# Altium integrated library Renesas Microcontroller R8C.IntLib: 628 symbols (part 30 of 33)
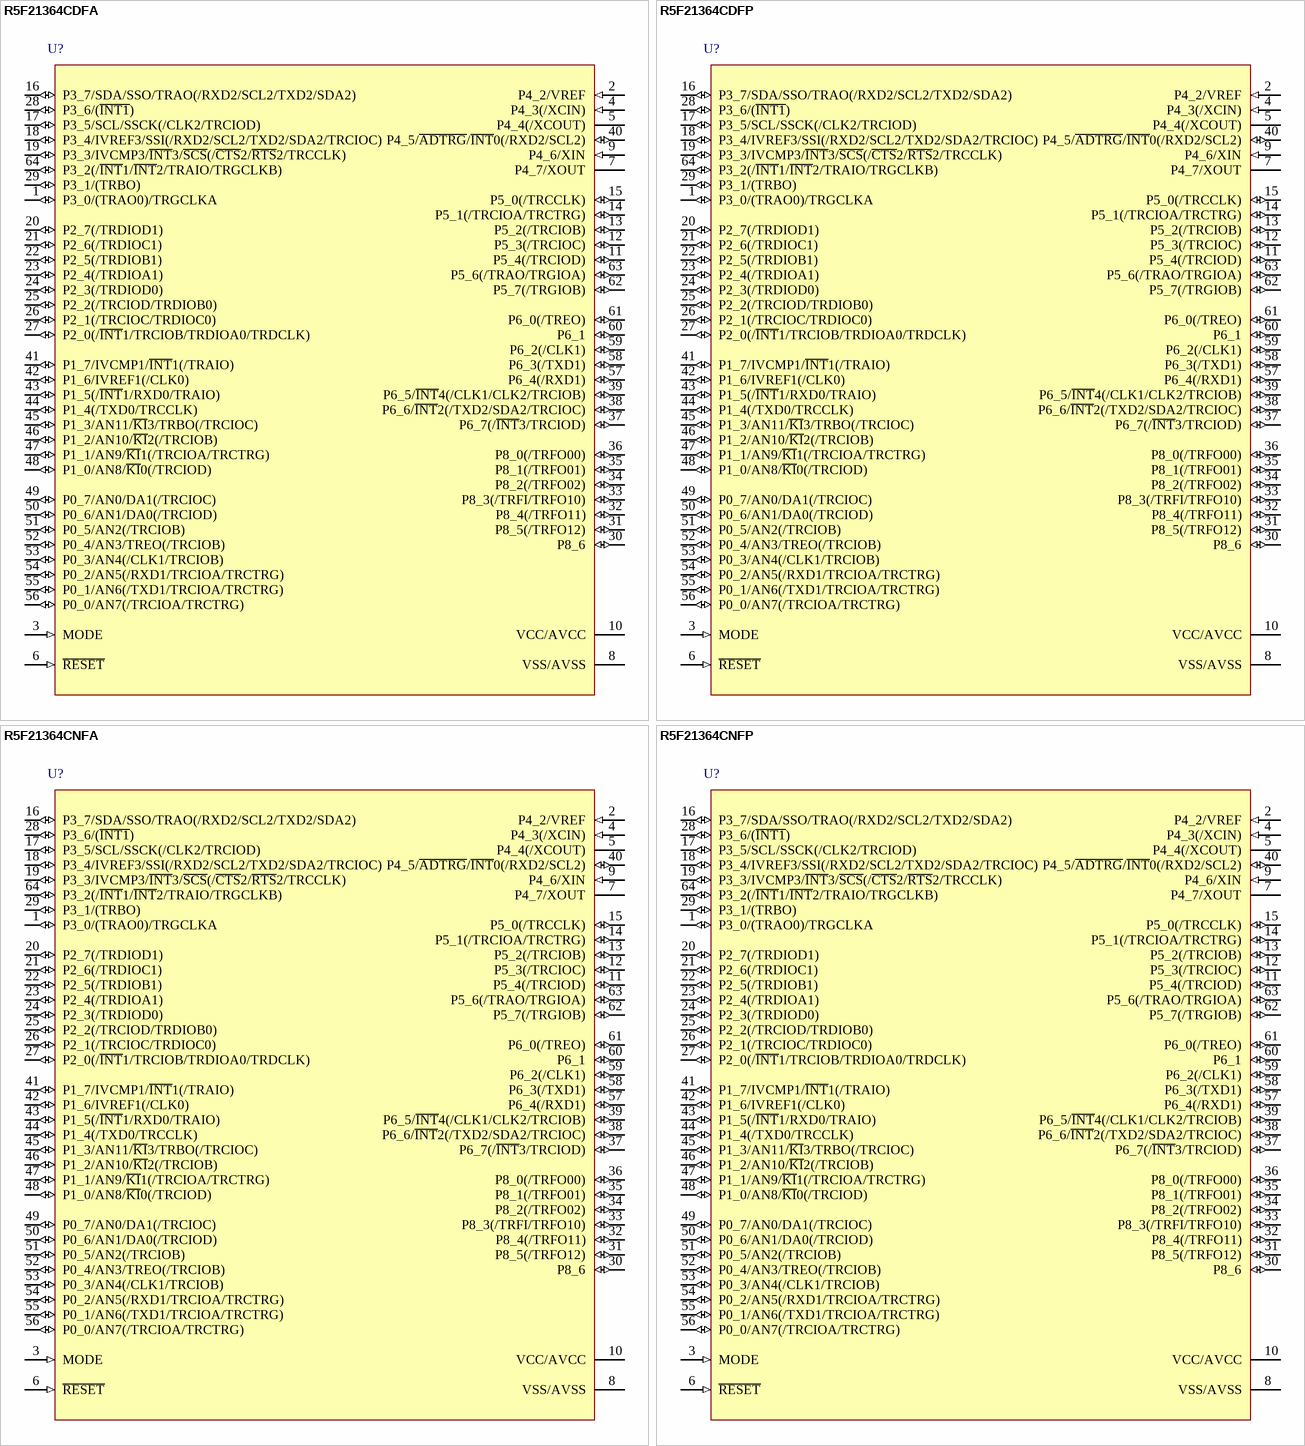
[diagram p145: symbols R5F21364CDFA to R5F21364CNFP]

## R5F21364CDFP
designator U?
R8C/36C Group Single Chip 16-Bit CMOS MCU, 16K + 4K ROM, 1.5K RAM, D Version; Published: 17-Feb-2010; DatasheetVersion: Rev.0.10, Nov-2009; PackageVersion: Sep-2005; PackageReference: PLQP0064KB-A; Publisher: Altium Limited; PackageDescription: 64-Pin Plastic Low Profile QFP, 10 x 10 x 1.4 mm Body, 0.5 mm Pitch; Code_JEITA: P-LQFP64-10x10-0.50; Code_IPC: SQFP50P1200X1200-64; ComponentLink1Description: Manufacturer Link; ComponentLink1URL: http://sg.renesas.com/fmwk.jsp?cnt=r8c_family_landing.jsp&fp=/products/mpumcu/r8c_family/; ComponentLink2Description: Datasheet; ComponentLink2URL: http://documentation.renesas.com/eng/products/mpumcu/rej09b0574_r8c36chm.pdf; ComponentLink3Description: Packaging Specification; ComponentLink3URL: http://sg.renesas.com/media/products/common_info/package/pdf/ic/code/plqp0064kb_a.pdf
footprint PLQP0064KB-A_N (Shrink QFP, 64-Leads, Body 10x10mm, Pitch 0.5mm, IPC Medium Density)
footprint PLQP0064KB-A_L (Shrink QFP, 64-Leads, Body 10x10mm, Pitch 0.5mm, IPC High Density)
footprint PLQP0064KB-A_M (Shrink QFP, 64-Leads, Body 10x10mm, Pitch 0.5mm, IPC Low Density)
pins: 1 P3_0/(TRAO0)/TRGCLKA (io), 2 P4_2/VREF (in), 3 MODE (in), 4 P4_3(/XCIN) (in), 5 P4_4(/XCOUT), 6 ~{RESET} (in), 7 P4_7/XOUT, 8 VSS/AVSS (power), 9 P4_6/XIN (in), 10 VCC/AVCC (power), 11 P5_4(/TRCIOD) (io), 12 P5_3(/TRCIOC) (io), 13 P5_2(/TRCIOB) (io), 14 P5_1(/TRCIOA/TRCTRG) (io), 15 P5_0(/TRCCLK) (io), 16 P3_7/SDA/SSO/TRAO(/RXD2/SCL2/TXD2/SDA2) (io), 17 P3_5/SCL/SSCK(/CLK2/TRCIOD) (io), 18 P3_4/IVREF3/SSI(/RXD2/SCL2/TXD2/SDA2/TRCIOC) (io), 19 P3_3/IVCMP3/~{INT}3/~{SCS}(/~{CTS}2/~{RTS}2/TRCCLK) (io), 20 P2_7(/TRDIOD1) (io), 21 P2_6(/TRDIOC1) (io), 22 P2_5(/TRDIOB1) (io), 23 P2_4(/TRDIOA1) (io), 24 P2_3(/TRDIOD0) (io), 25 P2_2(/TRCIOD/TRDIOB0) (io), 26 P2_1(/TRCIOC/TRDIOC0) (io), 27 P2_0(/~{INT}1/TRCIOB/TRDIOA0/TRDCLK) (io), 28 P3_6/(~{INT1}) (io), 29 P3_1/(TRBO) (io), 30 P8_6 (io), 31 P8_5(/TRFO12) (io), 32 P8_4(/TRFO11) (io), 33 P8_3(/TRFI/TRFO10) (io), 34 P8_2(/TRFO02) (io), 35 P8_1(/TRFO01) (io), 36 P8_0(/TRFO00) (io), 37 P6_7(/~{INT}3/TRCIOD) (io), 38 P6_6/~{INT}2(/TXD2/SDA2/TRCIOC) (io), 39 P6_5/~{INT}4(/CLK1/CLK2/TRCIOB) (io), 40 P4_5/~{ADTRG}/~{INT}0(/RXD2/SCL2) (io), 41 P1_7/IVCMP1/~{INT}1(/TRAIO) (io), 42 P1_6/IVREF1(/CLK0) (io), 43 P1_5(/~{INT}1/RXD0/TRAIO) (io), 44 P1_4(/TXD0/TRCCLK) (io), 45 P1_3/AN11/~{KI}3/TRBO(/TRCIOC) (io), 46 P1_2/AN10/~{KI}2(/TRCIOB) (io), 47 P1_1/AN9/~{KI}1(/TRCIOA/TRCTRG) (io), 48 P1_0/AN8/~{KI}0(/TRCIOD) (io), 49 P0_7/AN0/DA1(/TRCIOC) (io), 50 P0_6/AN1/DA0(/TRCIOD) (io), 51 P0_5/AN2(/TRCIOB) (io), 52 P0_4/AN3/TREO(/TRCIOB) (io), 53 P0_3/AN4(/CLK1/TRCIOB) (io), 54 P0_2/AN5(/RXD1/TRCIOA/TRCTRG) (io), 55 P0_1/AN6(/TXD1/TRCIOA/TRCTRG) (io), 56 P0_0/AN7(/TRCIOA/TRCTRG) (io), 57 P6_4(/RXD1) (io), 58 P6_3(/TXD1) (io), 59 P6_2(/CLK1) (io), 60 P6_1 (io), 61 P6_0(/TREO) (io), 62 P5_7(/TRGIOB) (io), 63 P5_6(/TRAO/TRGIOA) (io), 64 P3_2(/~{INT}1/~{INT}2/TRAIO/TRGCLKB) (io)

## R5F21364CNFA
designator U?
R8C/36C Group Single Chip 16-Bit CMOS MCU, 16K + 4K ROM, 1.5K RAM, N Version; Published: 17-Feb-2010; DatasheetVersion: Rev.0.10, Nov-2009; PackageVersion: Oct-2005; PackageReference: PLQP0064GA-A; Publisher: Altium Limited; PackageDescription: 64-Pin Plastic Low Profile QFP, 14 x 14 x 1.4 mm Body, 0.8 mm Pitch; Code_JEITA: P-LQFP64-14x14-0.80; ComponentLink1Description: Manufacturer Link; ComponentLink1URL: http://sg.renesas.com/fmwk.jsp?cnt=r8c_family_landing.jsp&fp=/products/mpumcu/r8c_family/; ComponentLink2Description: Datasheet; ComponentLink2URL: http://documentation.renesas.com/eng/products/mpumcu/rej09b0574_r8c36chm.pdf; ComponentLink3Description: Packaging Specification; ComponentLink3URL: http://sg.renesas.com/media/products/common_info/package/pdf/ic/code/plqp0064ga_a.pdf
footprint PLQP0064GA-A_N (QFP, 64-Leads, Body 14x14mm, Pitch 0.8mm, IPC Medium Density)
footprint PLQP0064GA-A_L (QFP, 64-Leads, Body 14x14mm, Pitch 0.8mm, IPC High Density)
footprint PLQP0064GA-A_M (QFP, 64-Leads, Body 14x14mm, Pitch 0.8mm, IPC Low Density)
pins: 1 P3_0/(TRAO0)/TRGCLKA (io), 2 P4_2/VREF (in), 3 MODE (in), 4 P4_3(/XCIN) (in), 5 P4_4(/XCOUT), 6 ~{RESET} (in), 7 P4_7/XOUT, 8 VSS/AVSS (power), 9 P4_6/XIN (in), 10 VCC/AVCC (power), 11 P5_4(/TRCIOD) (io), 12 P5_3(/TRCIOC) (io), 13 P5_2(/TRCIOB) (io), 14 P5_1(/TRCIOA/TRCTRG) (io), 15 P5_0(/TRCCLK) (io), 16 P3_7/SDA/SSO/TRAO(/RXD2/SCL2/TXD2/SDA2) (io), 17 P3_5/SCL/SSCK(/CLK2/TRCIOD) (io), 18 P3_4/IVREF3/SSI(/RXD2/SCL2/TXD2/SDA2/TRCIOC) (io), 19 P3_3/IVCMP3/~{INT}3/~{SCS}(/~{CTS}2/~{RTS}2/TRCCLK) (io), 20 P2_7(/TRDIOD1) (io), 21 P2_6(/TRDIOC1) (io), 22 P2_5(/TRDIOB1) (io), 23 P2_4(/TRDIOA1) (io), 24 P2_3(/TRDIOD0) (io), 25 P2_2(/TRCIOD/TRDIOB0) (io), 26 P2_1(/TRCIOC/TRDIOC0) (io), 27 P2_0(/~{INT}1/TRCIOB/TRDIOA0/TRDCLK) (io), 28 P3_6/(~{INT1}) (io), 29 P3_1/(TRBO) (io), 30 P8_6 (io), 31 P8_5(/TRFO12) (io), 32 P8_4(/TRFO11) (io), 33 P8_3(/TRFI/TRFO10) (io), 34 P8_2(/TRFO02) (io), 35 P8_1(/TRFO01) (io), 36 P8_0(/TRFO00) (io), 37 P6_7(/~{INT}3/TRCIOD) (io), 38 P6_6/~{INT}2(/TXD2/SDA2/TRCIOC) (io), 39 P6_5/~{INT}4(/CLK1/CLK2/TRCIOB) (io), 40 P4_5/~{ADTRG}/~{INT}0(/RXD2/SCL2) (io), 41 P1_7/IVCMP1/~{INT}1(/TRAIO) (io), 42 P1_6/IVREF1(/CLK0) (io), 43 P1_5(/~{INT}1/RXD0/TRAIO) (io), 44 P1_4(/TXD0/TRCCLK) (io), 45 P1_3/AN11/~{KI}3/TRBO(/TRCIOC) (io), 46 P1_2/AN10/~{KI}2(/TRCIOB) (io), 47 P1_1/AN9/~{KI}1(/TRCIOA/TRCTRG) (io), 48 P1_0/AN8/~{KI}0(/TRCIOD) (io), 49 P0_7/AN0/DA1(/TRCIOC) (io), 50 P0_6/AN1/DA0(/TRCIOD) (io), 51 P0_5/AN2(/TRCIOB) (io), 52 P0_4/AN3/TREO(/TRCIOB) (io), 53 P0_3/AN4(/CLK1/TRCIOB) (io), 54 P0_2/AN5(/RXD1/TRCIOA/TRCTRG) (io), 55 P0_1/AN6(/TXD1/TRCIOA/TRCTRG) (io), 56 P0_0/AN7(/TRCIOA/TRCTRG) (io), 57 P6_4(/RXD1) (io), 58 P6_3(/TXD1) (io), 59 P6_2(/CLK1) (io), 60 P6_1 (io), 61 P6_0(/TREO) (io), 62 P5_7(/TRGIOB) (io), 63 P5_6(/TRAO/TRGIOA) (io), 64 P3_2(/~{INT}1/~{INT}2/TRAIO/TRGCLKB) (io)

## R5F21364CNFP
designator U?
R8C/36C Group Single Chip 16-Bit CMOS MCU, 16K + 4K ROM, 1.5K RAM, N Version; Published: 17-Feb-2010; DatasheetVersion: Rev.0.10, Nov-2009; PackageVersion: Sep-2005; PackageReference: PLQP0064KB-A; Publisher: Altium Limited; PackageDescription: 64-Pin Plastic Low Profile QFP, 10 x 10 x 1.4 mm Body, 0.5 mm Pitch; Code_JEITA: P-LQFP64-10x10-0.50; Code_IPC: SQFP50P1200X1200-64; ComponentLink1Description: Manufacturer Link; ComponentLink1URL: http://sg.renesas.com/fmwk.jsp?cnt=r8c_family_landing.jsp&fp=/products/mpumcu/r8c_family/; ComponentLink2Description: Datasheet; ComponentLink2URL: http://documentation.renesas.com/eng/products/mpumcu/rej09b0574_r8c36chm.pdf; ComponentLink3Description: Packaging Specification; ComponentLink3URL: http://sg.renesas.com/media/products/common_info/package/pdf/ic/code/plqp0064kb_a.pdf
footprint PLQP0064KB-A_N (Shrink QFP, 64-Leads, Body 10x10mm, Pitch 0.5mm, IPC Medium Density)
footprint PLQP0064KB-A_L (Shrink QFP, 64-Leads, Body 10x10mm, Pitch 0.5mm, IPC High Density)
footprint PLQP0064KB-A_M (Shrink QFP, 64-Leads, Body 10x10mm, Pitch 0.5mm, IPC Low Density)
pins: 1 P3_0/(TRAO0)/TRGCLKA (io), 2 P4_2/VREF (in), 3 MODE (in), 4 P4_3(/XCIN) (in), 5 P4_4(/XCOUT), 6 ~{RESET} (in), 7 P4_7/XOUT, 8 VSS/AVSS (power), 9 P4_6/XIN (in), 10 VCC/AVCC (power), 11 P5_4(/TRCIOD) (io), 12 P5_3(/TRCIOC) (io), 13 P5_2(/TRCIOB) (io), 14 P5_1(/TRCIOA/TRCTRG) (io), 15 P5_0(/TRCCLK) (io), 16 P3_7/SDA/SSO/TRAO(/RXD2/SCL2/TXD2/SDA2) (io), 17 P3_5/SCL/SSCK(/CLK2/TRCIOD) (io), 18 P3_4/IVREF3/SSI(/RXD2/SCL2/TXD2/SDA2/TRCIOC) (io), 19 P3_3/IVCMP3/~{INT}3/~{SCS}(/~{CTS}2/~{RTS}2/TRCCLK) (io), 20 P2_7(/TRDIOD1) (io), 21 P2_6(/TRDIOC1) (io), 22 P2_5(/TRDIOB1) (io), 23 P2_4(/TRDIOA1) (io), 24 P2_3(/TRDIOD0) (io), 25 P2_2(/TRCIOD/TRDIOB0) (io), 26 P2_1(/TRCIOC/TRDIOC0) (io), 27 P2_0(/~{INT}1/TRCIOB/TRDIOA0/TRDCLK) (io), 28 P3_6/(~{INT1}) (io), 29 P3_1/(TRBO) (io), 30 P8_6 (io), 31 P8_5(/TRFO12) (io), 32 P8_4(/TRFO11) (io), 33 P8_3(/TRFI/TRFO10) (io), 34 P8_2(/TRFO02) (io), 35 P8_1(/TRFO01) (io), 36 P8_0(/TRFO00) (io), 37 P6_7(/~{INT}3/TRCIOD) (io), 38 P6_6/~{INT}2(/TXD2/SDA2/TRCIOC) (io), 39 P6_5/~{INT}4(/CLK1/CLK2/TRCIOB) (io), 40 P4_5/~{ADTRG}/~{INT}0(/RXD2/SCL2) (io), 41 P1_7/IVCMP1/~{INT}1(/TRAIO) (io), 42 P1_6/IVREF1(/CLK0) (io), 43 P1_5(/~{INT}1/RXD0/TRAIO) (io), 44 P1_4(/TXD0/TRCCLK) (io), 45 P1_3/AN11/~{KI}3/TRBO(/TRCIOC) (io), 46 P1_2/AN10/~{KI}2(/TRCIOB) (io), 47 P1_1/AN9/~{KI}1(/TRCIOA/TRCTRG) (io), 48 P1_0/AN8/~{KI}0(/TRCIOD) (io), 49 P0_7/AN0/DA1(/TRCIOC) (io), 50 P0_6/AN1/DA0(/TRCIOD) (io), 51 P0_5/AN2(/TRCIOB) (io), 52 P0_4/AN3/TREO(/TRCIOB) (io), 53 P0_3/AN4(/CLK1/TRCIOB) (io), 54 P0_2/AN5(/RXD1/TRCIOA/TRCTRG) (io), 55 P0_1/AN6(/TXD1/TRCIOA/TRCTRG) (io), 56 P0_0/AN7(/TRCIOA/TRCTRG) (io), 57 P6_4(/RXD1) (io), 58 P6_3(/TXD1) (io), 59 P6_2(/CLK1) (io), 60 P6_1 (io), 61 P6_0(/TREO) (io), 62 P5_7(/TRGIOB) (io), 63 P5_6(/TRAO/TRGIOA) (io), 64 P3_2(/~{INT}1/~{INT}2/TRAIO/TRGCLKB) (io)

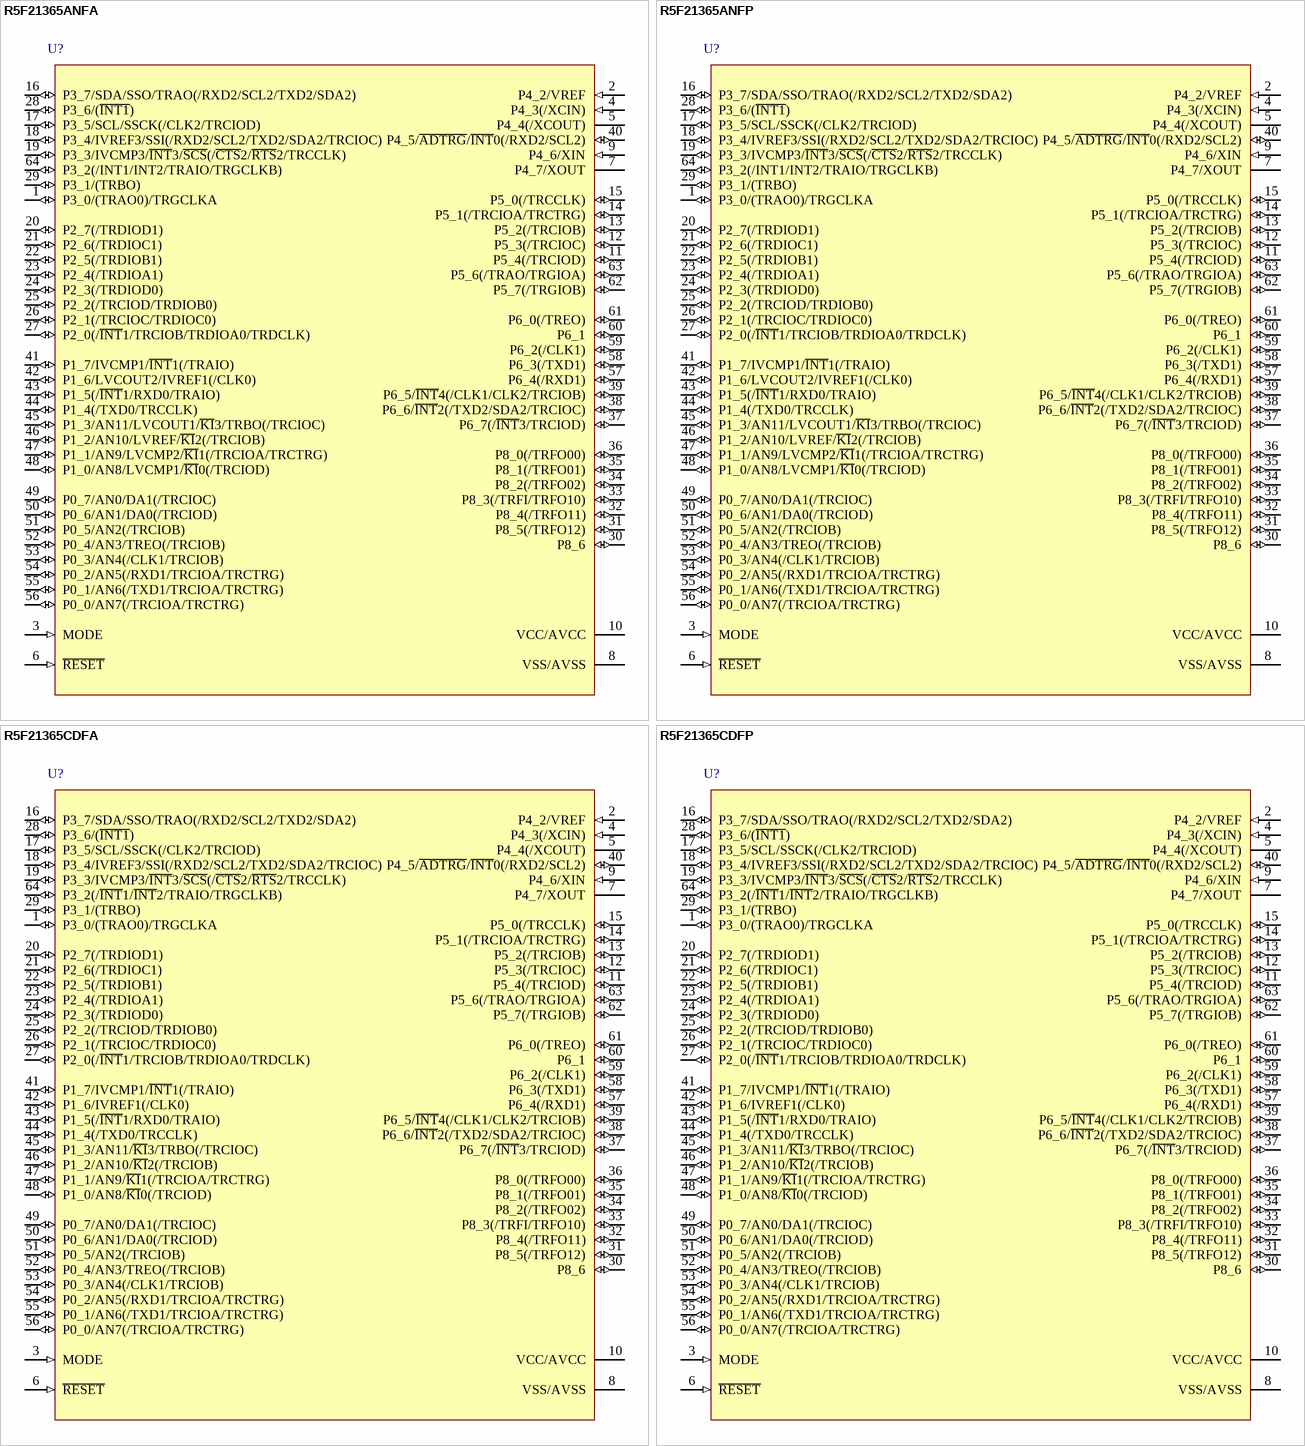
[diagram p104: symbols R5F21365ANFA to R5F21365CDFP]

## R5F21365ANFA
designator U?
R8C/36A Group Single Chip 16-Bit CMOS MCU, 24K + 4K ROM, 2K RAM, N Version; Published: 17-Feb-2010; DatasheetVersion: Rev.1.10, Sep-2009; PackageVersion: Oct-2005; PackageReference: PLQP0064GA-A; Publisher: Altium Limited; PackageDescription: 64-Pin Plastic Low Profile QFP, 14 x 14 x 1.4 mm Body, 0.8 mm Pitch; Code_JEITA: P-LQFP64-14x14-0.80; ComponentLink1Description: Manufacturer Link; ComponentLink1URL: http://sg.renesas.com/fmwk.jsp?cnt=r8c_family_landing.jsp&fp=/products/mpumcu/r8c_family/; ComponentLink2Description: Datasheet; ComponentLink2URL: http://documentation.renesas.com/eng/products/mpumcu/rej03b0265_r8c36ads.pdf; ComponentLink3Description: Packaging Specification; ComponentLink3URL: http://sg.renesas.com/media/products/common_info/package/pdf/ic/code/plqp0064ga_a.pdf
footprint PLQP0064GA-A_N (QFP, 64-Leads, Body 14x14mm, Pitch 0.8mm, IPC Medium Density)
footprint PLQP0064GA-A_L (QFP, 64-Leads, Body 14x14mm, Pitch 0.8mm, IPC High Density)
footprint PLQP0064GA-A_M (QFP, 64-Leads, Body 14x14mm, Pitch 0.8mm, IPC Low Density)
pins: 1 P3_0/(TRAO0)/TRGCLKA (io), 2 P4_2/VREF (in), 3 MODE (in), 4 P4_3(/XCIN) (in), 5 P4_4(/XCOUT), 6 ~{RESET} (in), 7 P4_7/XOUT, 8 VSS/AVSS (power), 9 P4_6/XIN (in), 10 VCC/AVCC (power), 11 P5_4(/TRCIOD) (io), 12 P5_3(/TRCIOC) (io), 13 P5_2(/TRCIOB) (io), 14 P5_1(/TRCIOA/TRCTRG) (io), 15 P5_0(/TRCCLK) (io), 16 P3_7/SDA/SSO/TRAO(/RXD2/SCL2/TXD2/SDA2) (io), 17 P3_5/SCL/SSCK(/CLK2/TRCIOD) (io), 18 P3_4/IVREF3/SSI(/RXD2/SCL2/TXD2/SDA2/TRCIOC) (io), 19 P3_3/IVCMP3/~{INT}3/~{SCS}(/~{CTS}2/~{RTS}2/TRCCLK) (io), 20 P2_7(/TRDIOD1) (io), 21 P2_6(/TRDIOC1) (io), 22 P2_5(/TRDIOB1) (io), 23 P2_4(/TRDIOA1) (io), 24 P2_3(/TRDIOD0) (io), 25 P2_2(/TRCIOD/TRDIOB0) (io), 26 P2_1(/TRCIOC/TRDIOC0) (io), 27 P2_0(/~{INT}1/TRCIOB/TRDIOA0/TRDCLK) (io), 28 P3_6/(~{INT1}) (io), 29 P3_1/(TRBO) (io), 30 P8_6 (io), 31 P8_5(/TRFO12) (io), 32 P8_4(/TRFO11) (io), 33 P8_3(/TRFI/TRFO10) (io), 34 P8_2(/TRFO02) (io), 35 P8_1(/TRFO01) (io), 36 P8_0(/TRFO00) (io), 37 P6_7(/~{INT}3/TRCIOD) (io), 38 P6_6/~{INT}2(/TXD2/SDA2/TRCIOC) (io), 39 P6_5/~{INT}4(/CLK1/CLK2/TRCIOB) (io), 40 P4_5/~{ADTRG}/~{INT}0(/RXD2/SCL2) (io), 41 P1_7/IVCMP1/~{INT}1(/TRAIO) (io), 42 P1_6/LVCOUT2/IVREF1(/CLK0) (io), 43 P1_5(/~{INT}1/RXD0/TRAIO) (io), 44 P1_4(/TXD0/TRCCLK) (io), 45 P1_3/AN11/LVCOUT1/~{KI}3/TRBO(/TRCIOC) (io), 46 P1_2/AN10/LVREF/~{KI}2(/TRCIOB) (io), 47 P1_1/AN9/LVCMP2/~{KI}1(/TRCIOA/TRCTRG) (io), 48 P1_0/AN8/LVCMP1/~{KI}0(/TRCIOD) (io), 49 P0_7/AN0/DA1(/TRCIOC) (io), 50 P0_6/AN1/DA0(/TRCIOD) (io), 51 P0_5/AN2(/TRCIOB) (io), 52 P0_4/AN3/TREO(/TRCIOB) (io), 53 P0_3/AN4(/CLK1/TRCIOB) (io), 54 P0_2/AN5(/RXD1/TRCIOA/TRCTRG) (io), 55 P0_1/AN6(/TXD1/TRCIOA/TRCTRG) (io), 56 P0_0/AN7(/TRCIOA/TRCTRG) (io), 57 P6_4(/RXD1) (io), 58 P6_3(/TXD1) (io), 59 P6_2(/CLK1) (io), 60 P6_1 (io), 61 P6_0(/TREO) (io), 62 P5_7(/TRGIOB) (io), 63 P5_6(/TRAO/TRGIOA) (io), 64 P3_2(/INT1/INT2/TRAIO/TRGCLKB) (io)

## R5F21365ANFP
designator U?
R8C/36A Group Single Chip 16-Bit CMOS MCU, 24K + 4K ROM, 2K RAM, N Version; Published: 17-Feb-2010; DatasheetVersion: Rev.1.10, Sep-2009; PackageVersion: Sep-2005; PackageReference: PLQP0064KB-A; Publisher: Altium Limited; PackageDescription: 64-Pin Plastic Low Profile QFP, 10 x 10 x 1.4 mm Body, 0.5 mm Pitch; Code_JEITA: P-LQFP64-10x10-0.50; Code_IPC: SQFP50P1200X1200-64; ComponentLink1Description: Manufacturer Link; ComponentLink1URL: http://sg.renesas.com/fmwk.jsp?cnt=r8c_family_landing.jsp&fp=/products/mpumcu/r8c_family/; ComponentLink2Description: Datasheet; ComponentLink2URL: http://documentation.renesas.com/eng/products/mpumcu/rej03b0265_r8c36ads.pdf; ComponentLink3Description: Packaging Specification; ComponentLink3URL: http://sg.renesas.com/media/products/common_info/package/pdf/ic/code/plqp0064kb_a.pdf
footprint PLQP0064KB-A_N (Shrink QFP, 64-Leads, Body 10x10mm, Pitch 0.5mm, IPC Medium Density)
footprint PLQP0064KB-A_L (Shrink QFP, 64-Leads, Body 10x10mm, Pitch 0.5mm, IPC High Density)
footprint PLQP0064KB-A_M (Shrink QFP, 64-Leads, Body 10x10mm, Pitch 0.5mm, IPC Low Density)
pins: 1 P3_0/(TRAO0)/TRGCLKA (io), 2 P4_2/VREF (in), 3 MODE (in), 4 P4_3(/XCIN) (in), 5 P4_4(/XCOUT), 6 ~{RESET} (in), 7 P4_7/XOUT, 8 VSS/AVSS (power), 9 P4_6/XIN (in), 10 VCC/AVCC (power), 11 P5_4(/TRCIOD) (io), 12 P5_3(/TRCIOC) (io), 13 P5_2(/TRCIOB) (io), 14 P5_1(/TRCIOA/TRCTRG) (io), 15 P5_0(/TRCCLK) (io), 16 P3_7/SDA/SSO/TRAO(/RXD2/SCL2/TXD2/SDA2) (io), 17 P3_5/SCL/SSCK(/CLK2/TRCIOD) (io), 18 P3_4/IVREF3/SSI(/RXD2/SCL2/TXD2/SDA2/TRCIOC) (io), 19 P3_3/IVCMP3/~{INT}3/~{SCS}(/~{CTS}2/~{RTS}2/TRCCLK) (io), 20 P2_7(/TRDIOD1) (io), 21 P2_6(/TRDIOC1) (io), 22 P2_5(/TRDIOB1) (io), 23 P2_4(/TRDIOA1) (io), 24 P2_3(/TRDIOD0) (io), 25 P2_2(/TRCIOD/TRDIOB0) (io), 26 P2_1(/TRCIOC/TRDIOC0) (io), 27 P2_0(/~{INT}1/TRCIOB/TRDIOA0/TRDCLK) (io), 28 P3_6/(~{INT1}) (io), 29 P3_1/(TRBO) (io), 30 P8_6 (io), 31 P8_5(/TRFO12) (io), 32 P8_4(/TRFO11) (io), 33 P8_3(/TRFI/TRFO10) (io), 34 P8_2(/TRFO02) (io), 35 P8_1(/TRFO01) (io), 36 P8_0(/TRFO00) (io), 37 P6_7(/~{INT}3/TRCIOD) (io), 38 P6_6/~{INT}2(/TXD2/SDA2/TRCIOC) (io), 39 P6_5/~{INT}4(/CLK1/CLK2/TRCIOB) (io), 40 P4_5/~{ADTRG}/~{INT}0(/RXD2/SCL2) (io), 41 P1_7/IVCMP1/~{INT}1(/TRAIO) (io), 42 P1_6/LVCOUT2/IVREF1(/CLK0) (io), 43 P1_5(/~{INT}1/RXD0/TRAIO) (io), 44 P1_4(/TXD0/TRCCLK) (io), 45 P1_3/AN11/LVCOUT1/~{KI}3/TRBO(/TRCIOC) (io), 46 P1_2/AN10/LVREF/~{KI}2(/TRCIOB) (io), 47 P1_1/AN9/LVCMP2/~{KI}1(/TRCIOA/TRCTRG) (io), 48 P1_0/AN8/LVCMP1/~{KI}0(/TRCIOD) (io), 49 P0_7/AN0/DA1(/TRCIOC) (io), 50 P0_6/AN1/DA0(/TRCIOD) (io), 51 P0_5/AN2(/TRCIOB) (io), 52 P0_4/AN3/TREO(/TRCIOB) (io), 53 P0_3/AN4(/CLK1/TRCIOB) (io), 54 P0_2/AN5(/RXD1/TRCIOA/TRCTRG) (io), 55 P0_1/AN6(/TXD1/TRCIOA/TRCTRG) (io), 56 P0_0/AN7(/TRCIOA/TRCTRG) (io), 57 P6_4(/RXD1) (io), 58 P6_3(/TXD1) (io), 59 P6_2(/CLK1) (io), 60 P6_1 (io), 61 P6_0(/TREO) (io), 62 P5_7(/TRGIOB) (io), 63 P5_6(/TRAO/TRGIOA) (io), 64 P3_2(/INT1/INT2/TRAIO/TRGCLKB) (io)

## R5F21365CDFA
designator U?
R8C/36C Group Single Chip 16-Bit CMOS MCU, 24K + 4K ROM, 2K RAM, D Version; Published: 17-Feb-2010; DatasheetVersion: Rev.0.10, Nov-2009; PackageVersion: Oct-2005; PackageReference: PLQP0064GA-A; Publisher: Altium Limited; PackageDescription: 64-Pin Plastic Low Profile QFP, 14 x 14 x 1.4 mm Body, 0.8 mm Pitch; Code_JEITA: P-LQFP64-14x14-0.80; ComponentLink1Description: Manufacturer Link; ComponentLink1URL: http://sg.renesas.com/fmwk.jsp?cnt=r8c_family_landing.jsp&fp=/products/mpumcu/r8c_family/; ComponentLink2Description: Datasheet; ComponentLink2URL: http://documentation.renesas.com/eng/products/mpumcu/rej09b0574_r8c36chm.pdf; ComponentLink3Description: Packaging Specification; ComponentLink3URL: http://sg.renesas.com/media/products/common_info/package/pdf/ic/code/plqp0064ga_a.pdf
footprint PLQP0064GA-A_N (QFP, 64-Leads, Body 14x14mm, Pitch 0.8mm, IPC Medium Density)
footprint PLQP0064GA-A_L (QFP, 64-Leads, Body 14x14mm, Pitch 0.8mm, IPC High Density)
footprint PLQP0064GA-A_M (QFP, 64-Leads, Body 14x14mm, Pitch 0.8mm, IPC Low Density)
pins: 1 P3_0/(TRAO0)/TRGCLKA (io), 2 P4_2/VREF (in), 3 MODE (in), 4 P4_3(/XCIN) (in), 5 P4_4(/XCOUT), 6 ~{RESET} (in), 7 P4_7/XOUT, 8 VSS/AVSS (power), 9 P4_6/XIN (in), 10 VCC/AVCC (power), 11 P5_4(/TRCIOD) (io), 12 P5_3(/TRCIOC) (io), 13 P5_2(/TRCIOB) (io), 14 P5_1(/TRCIOA/TRCTRG) (io), 15 P5_0(/TRCCLK) (io), 16 P3_7/SDA/SSO/TRAO(/RXD2/SCL2/TXD2/SDA2) (io), 17 P3_5/SCL/SSCK(/CLK2/TRCIOD) (io), 18 P3_4/IVREF3/SSI(/RXD2/SCL2/TXD2/SDA2/TRCIOC) (io), 19 P3_3/IVCMP3/~{INT}3/~{SCS}(/~{CTS}2/~{RTS}2/TRCCLK) (io), 20 P2_7(/TRDIOD1) (io), 21 P2_6(/TRDIOC1) (io), 22 P2_5(/TRDIOB1) (io), 23 P2_4(/TRDIOA1) (io), 24 P2_3(/TRDIOD0) (io), 25 P2_2(/TRCIOD/TRDIOB0) (io), 26 P2_1(/TRCIOC/TRDIOC0) (io), 27 P2_0(/~{INT}1/TRCIOB/TRDIOA0/TRDCLK) (io), 28 P3_6/(~{INT1}) (io), 29 P3_1/(TRBO) (io), 30 P8_6 (io), 31 P8_5(/TRFO12) (io), 32 P8_4(/TRFO11) (io), 33 P8_3(/TRFI/TRFO10) (io), 34 P8_2(/TRFO02) (io), 35 P8_1(/TRFO01) (io), 36 P8_0(/TRFO00) (io), 37 P6_7(/~{INT}3/TRCIOD) (io), 38 P6_6/~{INT}2(/TXD2/SDA2/TRCIOC) (io), 39 P6_5/~{INT}4(/CLK1/CLK2/TRCIOB) (io), 40 P4_5/~{ADTRG}/~{INT}0(/RXD2/SCL2) (io), 41 P1_7/IVCMP1/~{INT}1(/TRAIO) (io), 42 P1_6/IVREF1(/CLK0) (io), 43 P1_5(/~{INT}1/RXD0/TRAIO) (io), 44 P1_4(/TXD0/TRCCLK) (io), 45 P1_3/AN11/~{KI}3/TRBO(/TRCIOC) (io), 46 P1_2/AN10/~{KI}2(/TRCIOB) (io), 47 P1_1/AN9/~{KI}1(/TRCIOA/TRCTRG) (io), 48 P1_0/AN8/~{KI}0(/TRCIOD) (io), 49 P0_7/AN0/DA1(/TRCIOC) (io), 50 P0_6/AN1/DA0(/TRCIOD) (io), 51 P0_5/AN2(/TRCIOB) (io), 52 P0_4/AN3/TREO(/TRCIOB) (io), 53 P0_3/AN4(/CLK1/TRCIOB) (io), 54 P0_2/AN5(/RXD1/TRCIOA/TRCTRG) (io), 55 P0_1/AN6(/TXD1/TRCIOA/TRCTRG) (io), 56 P0_0/AN7(/TRCIOA/TRCTRG) (io), 57 P6_4(/RXD1) (io), 58 P6_3(/TXD1) (io), 59 P6_2(/CLK1) (io), 60 P6_1 (io), 61 P6_0(/TREO) (io), 62 P5_7(/TRGIOB) (io), 63 P5_6(/TRAO/TRGIOA) (io), 64 P3_2(/~{INT}1/~{INT}2/TRAIO/TRGCLKB) (io)

## R5F21365CDFP
designator U?
R8C/36C Group Single Chip 16-Bit CMOS MCU, 24K + 4K ROM, 2K RAM, D Version; Published: 17-Feb-2010; DatasheetVersion: Rev.0.10, Nov-2009; PackageVersion: Sep-2005; PackageReference: PLQP0064KB-A; Publisher: Altium Limited; PackageDescription: 64-Pin Plastic Low Profile QFP, 10 x 10 x 1.4 mm Body, 0.5 mm Pitch; Code_JEITA: P-LQFP64-10x10-0.50; Code_IPC: SQFP50P1200X1200-64; ComponentLink1Description: Manufacturer Link; ComponentLink1URL: http://sg.renesas.com/fmwk.jsp?cnt=r8c_family_landing.jsp&fp=/products/mpumcu/r8c_family/; ComponentLink2Description: Datasheet; ComponentLink2URL: http://documentation.renesas.com/eng/products/mpumcu/rej09b0574_r8c36chm.pdf; ComponentLink3Description: Packaging Specification; ComponentLink3URL: http://sg.renesas.com/media/products/common_info/package/pdf/ic/code/plqp0064kb_a.pdf
footprint PLQP0064KB-A_N (Shrink QFP, 64-Leads, Body 10x10mm, Pitch 0.5mm, IPC Medium Density)
footprint PLQP0064KB-A_L (Shrink QFP, 64-Leads, Body 10x10mm, Pitch 0.5mm, IPC High Density)
footprint PLQP0064KB-A_M (Shrink QFP, 64-Leads, Body 10x10mm, Pitch 0.5mm, IPC Low Density)
pins: 1 P3_0/(TRAO0)/TRGCLKA (io), 2 P4_2/VREF (in), 3 MODE (in), 4 P4_3(/XCIN) (in), 5 P4_4(/XCOUT), 6 ~{RESET} (in), 7 P4_7/XOUT, 8 VSS/AVSS (power), 9 P4_6/XIN (in), 10 VCC/AVCC (power), 11 P5_4(/TRCIOD) (io), 12 P5_3(/TRCIOC) (io), 13 P5_2(/TRCIOB) (io), 14 P5_1(/TRCIOA/TRCTRG) (io), 15 P5_0(/TRCCLK) (io), 16 P3_7/SDA/SSO/TRAO(/RXD2/SCL2/TXD2/SDA2) (io), 17 P3_5/SCL/SSCK(/CLK2/TRCIOD) (io), 18 P3_4/IVREF3/SSI(/RXD2/SCL2/TXD2/SDA2/TRCIOC) (io), 19 P3_3/IVCMP3/~{INT}3/~{SCS}(/~{CTS}2/~{RTS}2/TRCCLK) (io), 20 P2_7(/TRDIOD1) (io), 21 P2_6(/TRDIOC1) (io), 22 P2_5(/TRDIOB1) (io), 23 P2_4(/TRDIOA1) (io), 24 P2_3(/TRDIOD0) (io), 25 P2_2(/TRCIOD/TRDIOB0) (io), 26 P2_1(/TRCIOC/TRDIOC0) (io), 27 P2_0(/~{INT}1/TRCIOB/TRDIOA0/TRDCLK) (io), 28 P3_6/(~{INT1}) (io), 29 P3_1/(TRBO) (io), 30 P8_6 (io), 31 P8_5(/TRFO12) (io), 32 P8_4(/TRFO11) (io), 33 P8_3(/TRFI/TRFO10) (io), 34 P8_2(/TRFO02) (io), 35 P8_1(/TRFO01) (io), 36 P8_0(/TRFO00) (io), 37 P6_7(/~{INT}3/TRCIOD) (io), 38 P6_6/~{INT}2(/TXD2/SDA2/TRCIOC) (io), 39 P6_5/~{INT}4(/CLK1/CLK2/TRCIOB) (io), 40 P4_5/~{ADTRG}/~{INT}0(/RXD2/SCL2) (io), 41 P1_7/IVCMP1/~{INT}1(/TRAIO) (io), 42 P1_6/IVREF1(/CLK0) (io), 43 P1_5(/~{INT}1/RXD0/TRAIO) (io), 44 P1_4(/TXD0/TRCCLK) (io), 45 P1_3/AN11/~{KI}3/TRBO(/TRCIOC) (io), 46 P1_2/AN10/~{KI}2(/TRCIOB) (io), 47 P1_1/AN9/~{KI}1(/TRCIOA/TRCTRG) (io), 48 P1_0/AN8/~{KI}0(/TRCIOD) (io), 49 P0_7/AN0/DA1(/TRCIOC) (io), 50 P0_6/AN1/DA0(/TRCIOD) (io), 51 P0_5/AN2(/TRCIOB) (io), 52 P0_4/AN3/TREO(/TRCIOB) (io), 53 P0_3/AN4(/CLK1/TRCIOB) (io), 54 P0_2/AN5(/RXD1/TRCIOA/TRCTRG) (io), 55 P0_1/AN6(/TXD1/TRCIOA/TRCTRG) (io), 56 P0_0/AN7(/TRCIOA/TRCTRG) (io), 57 P6_4(/RXD1) (io), 58 P6_3(/TXD1) (io), 59 P6_2(/CLK1) (io), 60 P6_1 (io), 61 P6_0(/TREO) (io), 62 P5_7(/TRGIOB) (io), 63 P5_6(/TRAO/TRGIOA) (io), 64 P3_2(/~{INT}1/~{INT}2/TRAIO/TRGCLKB) (io)

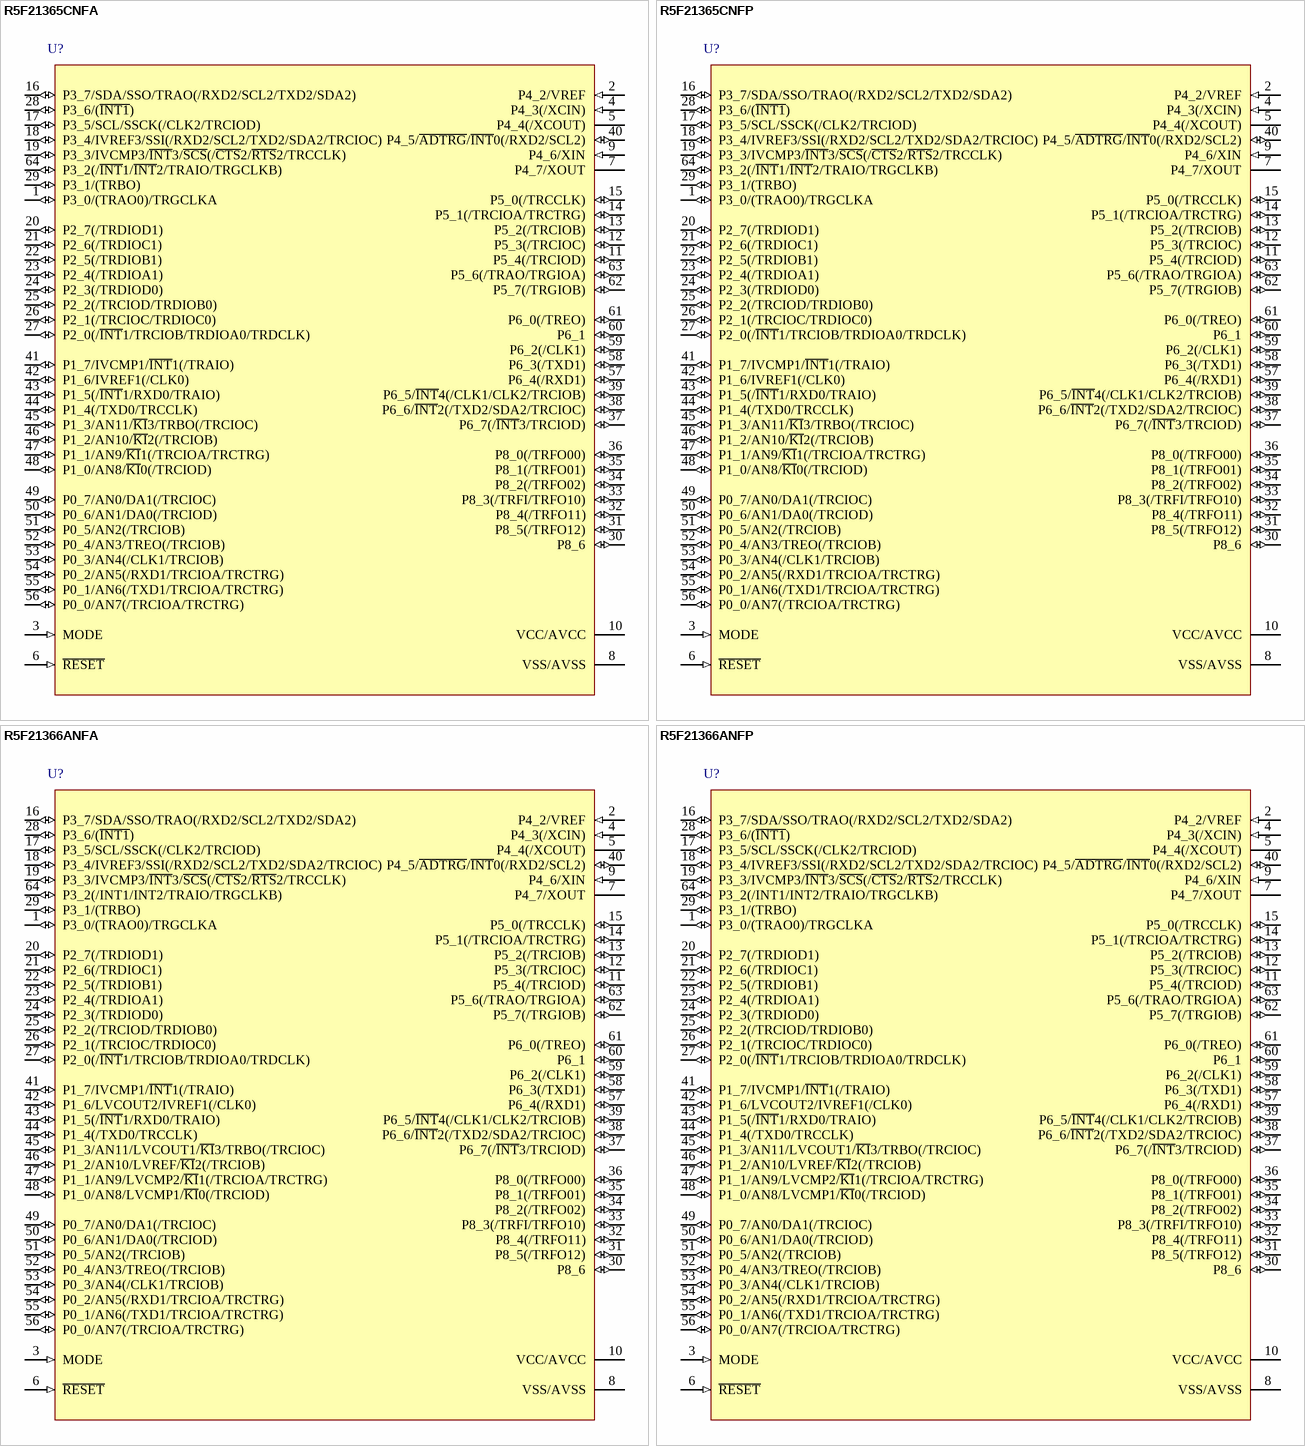
[diagram p105: symbols R5F21365CNFA to R5F21366ANFP]

## R5F21365CNFA
designator U?
R8C/36C Group Single Chip 16-Bit CMOS MCU, 24K + 4K ROM, 2K RAM, N Version; Published: 17-Feb-2010; DatasheetVersion: Rev.0.10, Nov-2009; PackageVersion: Oct-2005; PackageReference: PLQP0064GA-A; Publisher: Altium Limited; PackageDescription: 64-Pin Plastic Low Profile QFP, 14 x 14 x 1.4 mm Body, 0.8 mm Pitch; Code_JEITA: P-LQFP64-14x14-0.80; ComponentLink1Description: Manufacturer Link; ComponentLink1URL: http://sg.renesas.com/fmwk.jsp?cnt=r8c_family_landing.jsp&fp=/products/mpumcu/r8c_family/; ComponentLink2Description: Datasheet; ComponentLink2URL: http://documentation.renesas.com/eng/products/mpumcu/rej09b0574_r8c36chm.pdf; ComponentLink3Description: Packaging Specification; ComponentLink3URL: http://sg.renesas.com/media/products/common_info/package/pdf/ic/code/plqp0064ga_a.pdf
footprint PLQP0064GA-A_N (QFP, 64-Leads, Body 14x14mm, Pitch 0.8mm, IPC Medium Density)
footprint PLQP0064GA-A_L (QFP, 64-Leads, Body 14x14mm, Pitch 0.8mm, IPC High Density)
footprint PLQP0064GA-A_M (QFP, 64-Leads, Body 14x14mm, Pitch 0.8mm, IPC Low Density)
pins: 1 P3_0/(TRAO0)/TRGCLKA (io), 2 P4_2/VREF (in), 3 MODE (in), 4 P4_3(/XCIN) (in), 5 P4_4(/XCOUT), 6 ~{RESET} (in), 7 P4_7/XOUT, 8 VSS/AVSS (power), 9 P4_6/XIN (in), 10 VCC/AVCC (power), 11 P5_4(/TRCIOD) (io), 12 P5_3(/TRCIOC) (io), 13 P5_2(/TRCIOB) (io), 14 P5_1(/TRCIOA/TRCTRG) (io), 15 P5_0(/TRCCLK) (io), 16 P3_7/SDA/SSO/TRAO(/RXD2/SCL2/TXD2/SDA2) (io), 17 P3_5/SCL/SSCK(/CLK2/TRCIOD) (io), 18 P3_4/IVREF3/SSI(/RXD2/SCL2/TXD2/SDA2/TRCIOC) (io), 19 P3_3/IVCMP3/~{INT}3/~{SCS}(/~{CTS}2/~{RTS}2/TRCCLK) (io), 20 P2_7(/TRDIOD1) (io), 21 P2_6(/TRDIOC1) (io), 22 P2_5(/TRDIOB1) (io), 23 P2_4(/TRDIOA1) (io), 24 P2_3(/TRDIOD0) (io), 25 P2_2(/TRCIOD/TRDIOB0) (io), 26 P2_1(/TRCIOC/TRDIOC0) (io), 27 P2_0(/~{INT}1/TRCIOB/TRDIOA0/TRDCLK) (io), 28 P3_6/(~{INT1}) (io), 29 P3_1/(TRBO) (io), 30 P8_6 (io), 31 P8_5(/TRFO12) (io), 32 P8_4(/TRFO11) (io), 33 P8_3(/TRFI/TRFO10) (io), 34 P8_2(/TRFO02) (io), 35 P8_1(/TRFO01) (io), 36 P8_0(/TRFO00) (io), 37 P6_7(/~{INT}3/TRCIOD) (io), 38 P6_6/~{INT}2(/TXD2/SDA2/TRCIOC) (io), 39 P6_5/~{INT}4(/CLK1/CLK2/TRCIOB) (io), 40 P4_5/~{ADTRG}/~{INT}0(/RXD2/SCL2) (io), 41 P1_7/IVCMP1/~{INT}1(/TRAIO) (io), 42 P1_6/IVREF1(/CLK0) (io), 43 P1_5(/~{INT}1/RXD0/TRAIO) (io), 44 P1_4(/TXD0/TRCCLK) (io), 45 P1_3/AN11/~{KI}3/TRBO(/TRCIOC) (io), 46 P1_2/AN10/~{KI}2(/TRCIOB) (io), 47 P1_1/AN9/~{KI}1(/TRCIOA/TRCTRG) (io), 48 P1_0/AN8/~{KI}0(/TRCIOD) (io), 49 P0_7/AN0/DA1(/TRCIOC) (io), 50 P0_6/AN1/DA0(/TRCIOD) (io), 51 P0_5/AN2(/TRCIOB) (io), 52 P0_4/AN3/TREO(/TRCIOB) (io), 53 P0_3/AN4(/CLK1/TRCIOB) (io), 54 P0_2/AN5(/RXD1/TRCIOA/TRCTRG) (io), 55 P0_1/AN6(/TXD1/TRCIOA/TRCTRG) (io), 56 P0_0/AN7(/TRCIOA/TRCTRG) (io), 57 P6_4(/RXD1) (io), 58 P6_3(/TXD1) (io), 59 P6_2(/CLK1) (io), 60 P6_1 (io), 61 P6_0(/TREO) (io), 62 P5_7(/TRGIOB) (io), 63 P5_6(/TRAO/TRGIOA) (io), 64 P3_2(/~{INT}1/~{INT}2/TRAIO/TRGCLKB) (io)

## R5F21365CNFP
designator U?
R8C/36C Group Single Chip 16-Bit CMOS MCU, 24K + 4K ROM, 2K RAM, N Version; Published: 17-Feb-2010; DatasheetVersion: Rev.0.10, Nov-2009; PackageVersion: Sep-2005; PackageReference: PLQP0064KB-A; Publisher: Altium Limited; PackageDescription: 64-Pin Plastic Low Profile QFP, 10 x 10 x 1.4 mm Body, 0.5 mm Pitch; Code_JEITA: P-LQFP64-10x10-0.50; Code_IPC: SQFP50P1200X1200-64; ComponentLink1Description: Manufacturer Link; ComponentLink1URL: http://sg.renesas.com/fmwk.jsp?cnt=r8c_family_landing.jsp&fp=/products/mpumcu/r8c_family/; ComponentLink2Description: Datasheet; ComponentLink2URL: http://documentation.renesas.com/eng/products/mpumcu/rej09b0574_r8c36chm.pdf; ComponentLink3Description: Packaging Specification; ComponentLink3URL: http://sg.renesas.com/media/products/common_info/package/pdf/ic/code/plqp0064kb_a.pdf
footprint PLQP0064KB-A_N (Shrink QFP, 64-Leads, Body 10x10mm, Pitch 0.5mm, IPC Medium Density)
footprint PLQP0064KB-A_L (Shrink QFP, 64-Leads, Body 10x10mm, Pitch 0.5mm, IPC High Density)
footprint PLQP0064KB-A_M (Shrink QFP, 64-Leads, Body 10x10mm, Pitch 0.5mm, IPC Low Density)
pins: 1 P3_0/(TRAO0)/TRGCLKA (io), 2 P4_2/VREF (in), 3 MODE (in), 4 P4_3(/XCIN) (in), 5 P4_4(/XCOUT), 6 ~{RESET} (in), 7 P4_7/XOUT, 8 VSS/AVSS (power), 9 P4_6/XIN (in), 10 VCC/AVCC (power), 11 P5_4(/TRCIOD) (io), 12 P5_3(/TRCIOC) (io), 13 P5_2(/TRCIOB) (io), 14 P5_1(/TRCIOA/TRCTRG) (io), 15 P5_0(/TRCCLK) (io), 16 P3_7/SDA/SSO/TRAO(/RXD2/SCL2/TXD2/SDA2) (io), 17 P3_5/SCL/SSCK(/CLK2/TRCIOD) (io), 18 P3_4/IVREF3/SSI(/RXD2/SCL2/TXD2/SDA2/TRCIOC) (io), 19 P3_3/IVCMP3/~{INT}3/~{SCS}(/~{CTS}2/~{RTS}2/TRCCLK) (io), 20 P2_7(/TRDIOD1) (io), 21 P2_6(/TRDIOC1) (io), 22 P2_5(/TRDIOB1) (io), 23 P2_4(/TRDIOA1) (io), 24 P2_3(/TRDIOD0) (io), 25 P2_2(/TRCIOD/TRDIOB0) (io), 26 P2_1(/TRCIOC/TRDIOC0) (io), 27 P2_0(/~{INT}1/TRCIOB/TRDIOA0/TRDCLK) (io), 28 P3_6/(~{INT1}) (io), 29 P3_1/(TRBO) (io), 30 P8_6 (io), 31 P8_5(/TRFO12) (io), 32 P8_4(/TRFO11) (io), 33 P8_3(/TRFI/TRFO10) (io), 34 P8_2(/TRFO02) (io), 35 P8_1(/TRFO01) (io), 36 P8_0(/TRFO00) (io), 37 P6_7(/~{INT}3/TRCIOD) (io), 38 P6_6/~{INT}2(/TXD2/SDA2/TRCIOC) (io), 39 P6_5/~{INT}4(/CLK1/CLK2/TRCIOB) (io), 40 P4_5/~{ADTRG}/~{INT}0(/RXD2/SCL2) (io), 41 P1_7/IVCMP1/~{INT}1(/TRAIO) (io), 42 P1_6/IVREF1(/CLK0) (io), 43 P1_5(/~{INT}1/RXD0/TRAIO) (io), 44 P1_4(/TXD0/TRCCLK) (io), 45 P1_3/AN11/~{KI}3/TRBO(/TRCIOC) (io), 46 P1_2/AN10/~{KI}2(/TRCIOB) (io), 47 P1_1/AN9/~{KI}1(/TRCIOA/TRCTRG) (io), 48 P1_0/AN8/~{KI}0(/TRCIOD) (io), 49 P0_7/AN0/DA1(/TRCIOC) (io), 50 P0_6/AN1/DA0(/TRCIOD) (io), 51 P0_5/AN2(/TRCIOB) (io), 52 P0_4/AN3/TREO(/TRCIOB) (io), 53 P0_3/AN4(/CLK1/TRCIOB) (io), 54 P0_2/AN5(/RXD1/TRCIOA/TRCTRG) (io), 55 P0_1/AN6(/TXD1/TRCIOA/TRCTRG) (io), 56 P0_0/AN7(/TRCIOA/TRCTRG) (io), 57 P6_4(/RXD1) (io), 58 P6_3(/TXD1) (io), 59 P6_2(/CLK1) (io), 60 P6_1 (io), 61 P6_0(/TREO) (io), 62 P5_7(/TRGIOB) (io), 63 P5_6(/TRAO/TRGIOA) (io), 64 P3_2(/~{INT}1/~{INT}2/TRAIO/TRGCLKB) (io)

## R5F21366ANFA
designator U?
R8C/36A Group Single Chip 16-Bit CMOS MCU, 32K + 4K ROM, 2.5K RAM, N Version; Published: 17-Feb-2010; DatasheetVersion: Rev.1.10, Sep-2009; PackageVersion: Oct-2005; PackageReference: PLQP0064GA-A; Publisher: Altium Limited; PackageDescription: 64-Pin Plastic Low Profile QFP, 14 x 14 x 1.4 mm Body, 0.8 mm Pitch; Code_JEITA: P-LQFP64-14x14-0.80; ComponentLink1Description: Manufacturer Link; ComponentLink1URL: http://sg.renesas.com/fmwk.jsp?cnt=r8c_family_landing.jsp&fp=/products/mpumcu/r8c_family/; ComponentLink2Description: Datasheet; ComponentLink2URL: http://documentation.renesas.com/eng/products/mpumcu/rej03b0265_r8c36ads.pdf; ComponentLink3Description: Packaging Specification; ComponentLink3URL: http://sg.renesas.com/media/products/common_info/package/pdf/ic/code/plqp0064ga_a.pdf
footprint PLQP0064GA-A_N (QFP, 64-Leads, Body 14x14mm, Pitch 0.8mm, IPC Medium Density)
footprint PLQP0064GA-A_L (QFP, 64-Leads, Body 14x14mm, Pitch 0.8mm, IPC High Density)
footprint PLQP0064GA-A_M (QFP, 64-Leads, Body 14x14mm, Pitch 0.8mm, IPC Low Density)
pins: 1 P3_0/(TRAO0)/TRGCLKA (io), 2 P4_2/VREF (in), 3 MODE (in), 4 P4_3(/XCIN) (in), 5 P4_4(/XCOUT), 6 ~{RESET} (in), 7 P4_7/XOUT, 8 VSS/AVSS (power), 9 P4_6/XIN (in), 10 VCC/AVCC (power), 11 P5_4(/TRCIOD) (io), 12 P5_3(/TRCIOC) (io), 13 P5_2(/TRCIOB) (io), 14 P5_1(/TRCIOA/TRCTRG) (io), 15 P5_0(/TRCCLK) (io), 16 P3_7/SDA/SSO/TRAO(/RXD2/SCL2/TXD2/SDA2) (io), 17 P3_5/SCL/SSCK(/CLK2/TRCIOD) (io), 18 P3_4/IVREF3/SSI(/RXD2/SCL2/TXD2/SDA2/TRCIOC) (io), 19 P3_3/IVCMP3/~{INT}3/~{SCS}(/~{CTS}2/~{RTS}2/TRCCLK) (io), 20 P2_7(/TRDIOD1) (io), 21 P2_6(/TRDIOC1) (io), 22 P2_5(/TRDIOB1) (io), 23 P2_4(/TRDIOA1) (io), 24 P2_3(/TRDIOD0) (io), 25 P2_2(/TRCIOD/TRDIOB0) (io), 26 P2_1(/TRCIOC/TRDIOC0) (io), 27 P2_0(/~{INT}1/TRCIOB/TRDIOA0/TRDCLK) (io), 28 P3_6/(~{INT1}) (io), 29 P3_1/(TRBO) (io), 30 P8_6 (io), 31 P8_5(/TRFO12) (io), 32 P8_4(/TRFO11) (io), 33 P8_3(/TRFI/TRFO10) (io), 34 P8_2(/TRFO02) (io), 35 P8_1(/TRFO01) (io), 36 P8_0(/TRFO00) (io), 37 P6_7(/~{INT}3/TRCIOD) (io), 38 P6_6/~{INT}2(/TXD2/SDA2/TRCIOC) (io), 39 P6_5/~{INT}4(/CLK1/CLK2/TRCIOB) (io), 40 P4_5/~{ADTRG}/~{INT}0(/RXD2/SCL2) (io), 41 P1_7/IVCMP1/~{INT}1(/TRAIO) (io), 42 P1_6/LVCOUT2/IVREF1(/CLK0) (io), 43 P1_5(/~{INT}1/RXD0/TRAIO) (io), 44 P1_4(/TXD0/TRCCLK) (io), 45 P1_3/AN11/LVCOUT1/~{KI}3/TRBO(/TRCIOC) (io), 46 P1_2/AN10/LVREF/~{KI}2(/TRCIOB) (io), 47 P1_1/AN9/LVCMP2/~{KI}1(/TRCIOA/TRCTRG) (io), 48 P1_0/AN8/LVCMP1/~{KI}0(/TRCIOD) (io), 49 P0_7/AN0/DA1(/TRCIOC) (io), 50 P0_6/AN1/DA0(/TRCIOD) (io), 51 P0_5/AN2(/TRCIOB) (io), 52 P0_4/AN3/TREO(/TRCIOB) (io), 53 P0_3/AN4(/CLK1/TRCIOB) (io), 54 P0_2/AN5(/RXD1/TRCIOA/TRCTRG) (io), 55 P0_1/AN6(/TXD1/TRCIOA/TRCTRG) (io), 56 P0_0/AN7(/TRCIOA/TRCTRG) (io), 57 P6_4(/RXD1) (io), 58 P6_3(/TXD1) (io), 59 P6_2(/CLK1) (io), 60 P6_1 (io), 61 P6_0(/TREO) (io), 62 P5_7(/TRGIOB) (io), 63 P5_6(/TRAO/TRGIOA) (io), 64 P3_2(/INT1/INT2/TRAIO/TRGCLKB) (io)

## R5F21366ANFP
designator U?
R8C/36A Group Single Chip 16-Bit CMOS MCU, 32K + 4K ROM, 2.5K RAM, N Version; Published: 17-Feb-2010; DatasheetVersion: Rev.1.10, Sep-2009; PackageVersion: Sep-2005; PackageReference: PLQP0064KB-A; Publisher: Altium Limited; PackageDescription: 64-Pin Plastic Low Profile QFP, 10 x 10 x 1.4 mm Body, 0.5 mm Pitch; Code_JEITA: P-LQFP64-10x10-0.50; Code_IPC: SQFP50P1200X1200-64; ComponentLink1Description: Manufacturer Link; ComponentLink1URL: http://sg.renesas.com/fmwk.jsp?cnt=r8c_family_landing.jsp&fp=/products/mpumcu/r8c_family/; ComponentLink2Description: Datasheet; ComponentLink2URL: http://documentation.renesas.com/eng/products/mpumcu/rej03b0265_r8c36ads.pdf; ComponentLink3Description: Packaging Specification; ComponentLink3URL: http://sg.renesas.com/media/products/common_info/package/pdf/ic/code/plqp0064kb_a.pdf
footprint PLQP0064KB-A_N (Shrink QFP, 64-Leads, Body 10x10mm, Pitch 0.5mm, IPC Medium Density)
footprint PLQP0064KB-A_L (Shrink QFP, 64-Leads, Body 10x10mm, Pitch 0.5mm, IPC High Density)
footprint PLQP0064KB-A_M (Shrink QFP, 64-Leads, Body 10x10mm, Pitch 0.5mm, IPC Low Density)
pins: 1 P3_0/(TRAO0)/TRGCLKA (io), 2 P4_2/VREF (in), 3 MODE (in), 4 P4_3(/XCIN) (in), 5 P4_4(/XCOUT), 6 ~{RESET} (in), 7 P4_7/XOUT, 8 VSS/AVSS (power), 9 P4_6/XIN (in), 10 VCC/AVCC (power), 11 P5_4(/TRCIOD) (io), 12 P5_3(/TRCIOC) (io), 13 P5_2(/TRCIOB) (io), 14 P5_1(/TRCIOA/TRCTRG) (io), 15 P5_0(/TRCCLK) (io), 16 P3_7/SDA/SSO/TRAO(/RXD2/SCL2/TXD2/SDA2) (io), 17 P3_5/SCL/SSCK(/CLK2/TRCIOD) (io), 18 P3_4/IVREF3/SSI(/RXD2/SCL2/TXD2/SDA2/TRCIOC) (io), 19 P3_3/IVCMP3/~{INT}3/~{SCS}(/~{CTS}2/~{RTS}2/TRCCLK) (io), 20 P2_7(/TRDIOD1) (io), 21 P2_6(/TRDIOC1) (io), 22 P2_5(/TRDIOB1) (io), 23 P2_4(/TRDIOA1) (io), 24 P2_3(/TRDIOD0) (io), 25 P2_2(/TRCIOD/TRDIOB0) (io), 26 P2_1(/TRCIOC/TRDIOC0) (io), 27 P2_0(/~{INT}1/TRCIOB/TRDIOA0/TRDCLK) (io), 28 P3_6/(~{INT1}) (io), 29 P3_1/(TRBO) (io), 30 P8_6 (io), 31 P8_5(/TRFO12) (io), 32 P8_4(/TRFO11) (io), 33 P8_3(/TRFI/TRFO10) (io), 34 P8_2(/TRFO02) (io), 35 P8_1(/TRFO01) (io), 36 P8_0(/TRFO00) (io), 37 P6_7(/~{INT}3/TRCIOD) (io), 38 P6_6/~{INT}2(/TXD2/SDA2/TRCIOC) (io), 39 P6_5/~{INT}4(/CLK1/CLK2/TRCIOB) (io), 40 P4_5/~{ADTRG}/~{INT}0(/RXD2/SCL2) (io), 41 P1_7/IVCMP1/~{INT}1(/TRAIO) (io), 42 P1_6/LVCOUT2/IVREF1(/CLK0) (io), 43 P1_5(/~{INT}1/RXD0/TRAIO) (io), 44 P1_4(/TXD0/TRCCLK) (io), 45 P1_3/AN11/LVCOUT1/~{KI}3/TRBO(/TRCIOC) (io), 46 P1_2/AN10/LVREF/~{KI}2(/TRCIOB) (io), 47 P1_1/AN9/LVCMP2/~{KI}1(/TRCIOA/TRCTRG) (io), 48 P1_0/AN8/LVCMP1/~{KI}0(/TRCIOD) (io), 49 P0_7/AN0/DA1(/TRCIOC) (io), 50 P0_6/AN1/DA0(/TRCIOD) (io), 51 P0_5/AN2(/TRCIOB) (io), 52 P0_4/AN3/TREO(/TRCIOB) (io), 53 P0_3/AN4(/CLK1/TRCIOB) (io), 54 P0_2/AN5(/RXD1/TRCIOA/TRCTRG) (io), 55 P0_1/AN6(/TXD1/TRCIOA/TRCTRG) (io), 56 P0_0/AN7(/TRCIOA/TRCTRG) (io), 57 P6_4(/RXD1) (io), 58 P6_3(/TXD1) (io), 59 P6_2(/CLK1) (io), 60 P6_1 (io), 61 P6_0(/TREO) (io), 62 P5_7(/TRGIOB) (io), 63 P5_6(/TRAO/TRGIOA) (io), 64 P3_2(/INT1/INT2/TRAIO/TRGCLKB) (io)

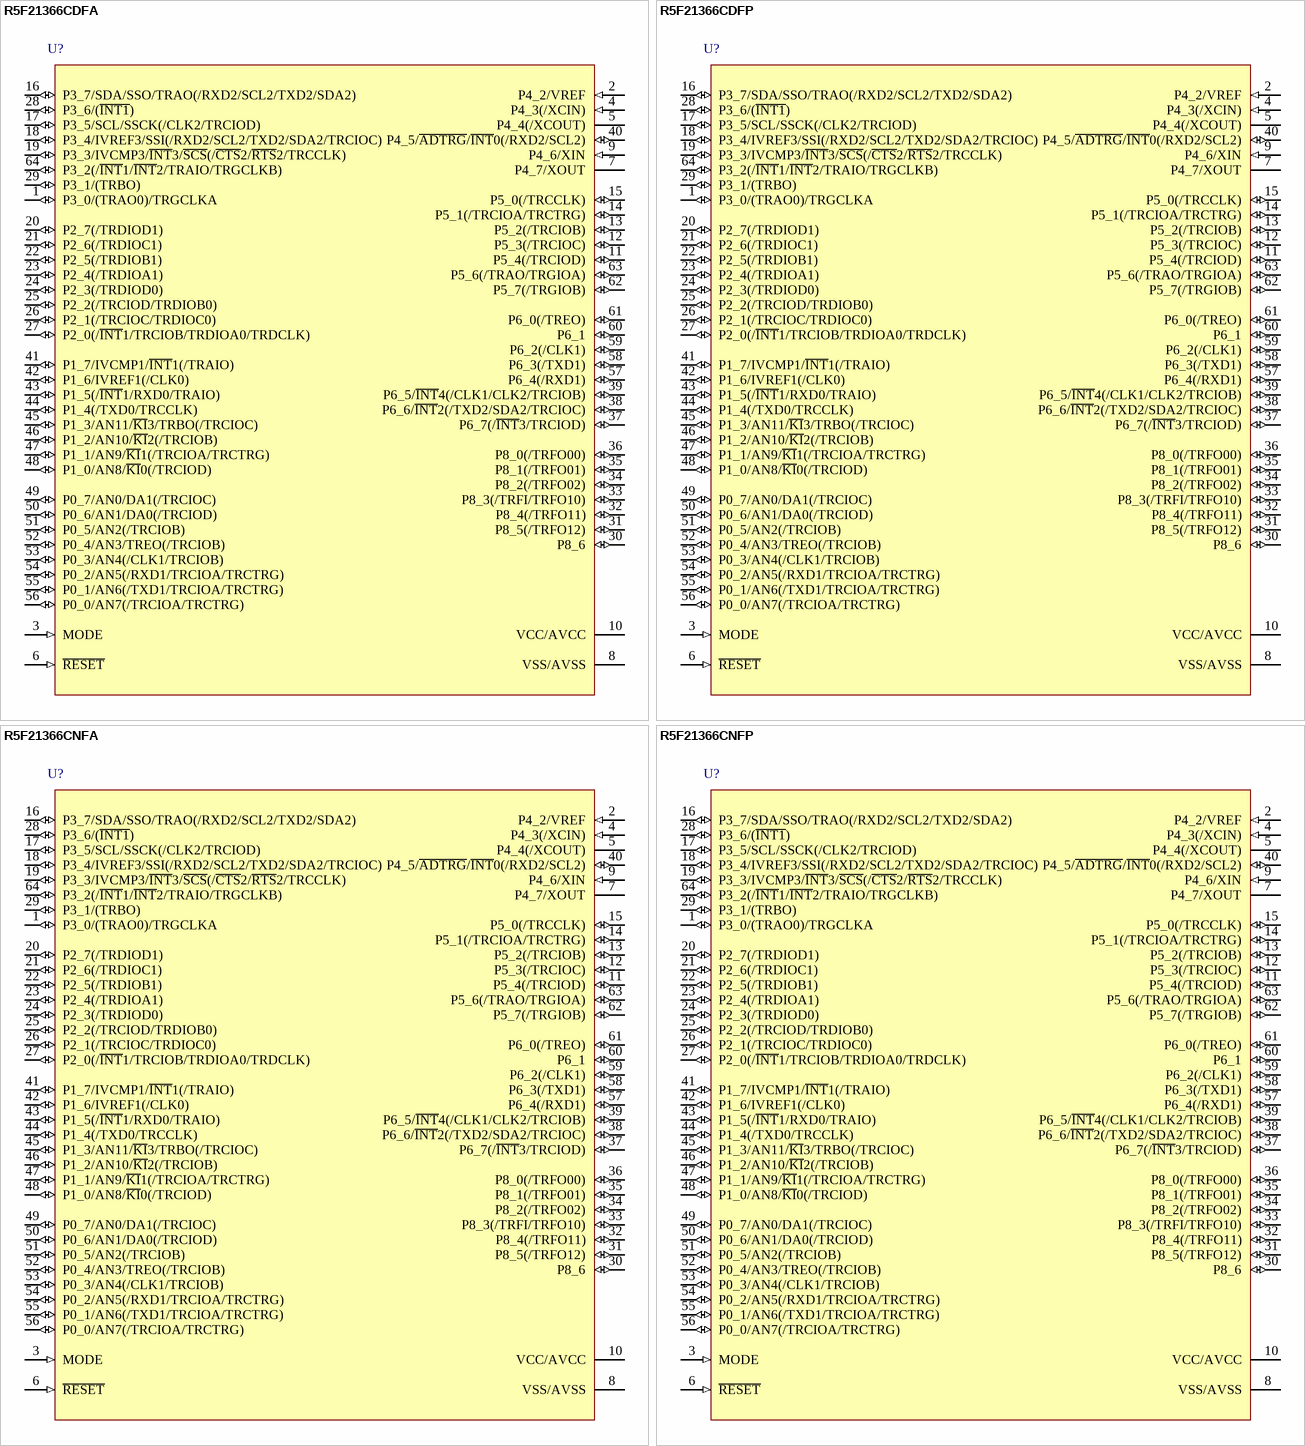
[diagram p106: symbols R5F21366CDFA to R5F21366CNFP]

## R5F21366CDFA
designator U?
R8C/36C Group Single Chip 16-Bit CMOS MCU, 32K + 4K ROM, 2.5K RAM, D Version; Published: 17-Feb-2010; DatasheetVersion: Rev.0.10, Nov-2009; PackageVersion: Oct-2005; PackageReference: PLQP0064GA-A; Publisher: Altium Limited; PackageDescription: 64-Pin Plastic Low Profile QFP, 14 x 14 x 1.4 mm Body, 0.8 mm Pitch; Code_JEITA: P-LQFP64-14x14-0.80; ComponentLink1Description: Manufacturer Link; ComponentLink1URL: http://sg.renesas.com/fmwk.jsp?cnt=r8c_family_landing.jsp&fp=/products/mpumcu/r8c_family/; ComponentLink2Description: Datasheet; ComponentLink2URL: http://documentation.renesas.com/eng/products/mpumcu/rej09b0574_r8c36chm.pdf; ComponentLink3Description: Packaging Specification; ComponentLink3URL: http://sg.renesas.com/media/products/common_info/package/pdf/ic/code/plqp0064ga_a.pdf
footprint PLQP0064GA-A_N (QFP, 64-Leads, Body 14x14mm, Pitch 0.8mm, IPC Medium Density)
footprint PLQP0064GA-A_L (QFP, 64-Leads, Body 14x14mm, Pitch 0.8mm, IPC High Density)
footprint PLQP0064GA-A_M (QFP, 64-Leads, Body 14x14mm, Pitch 0.8mm, IPC Low Density)
pins: 1 P3_0/(TRAO0)/TRGCLKA (io), 2 P4_2/VREF (in), 3 MODE (in), 4 P4_3(/XCIN) (in), 5 P4_4(/XCOUT), 6 ~{RESET} (in), 7 P4_7/XOUT, 8 VSS/AVSS (power), 9 P4_6/XIN (in), 10 VCC/AVCC (power), 11 P5_4(/TRCIOD) (io), 12 P5_3(/TRCIOC) (io), 13 P5_2(/TRCIOB) (io), 14 P5_1(/TRCIOA/TRCTRG) (io), 15 P5_0(/TRCCLK) (io), 16 P3_7/SDA/SSO/TRAO(/RXD2/SCL2/TXD2/SDA2) (io), 17 P3_5/SCL/SSCK(/CLK2/TRCIOD) (io), 18 P3_4/IVREF3/SSI(/RXD2/SCL2/TXD2/SDA2/TRCIOC) (io), 19 P3_3/IVCMP3/~{INT}3/~{SCS}(/~{CTS}2/~{RTS}2/TRCCLK) (io), 20 P2_7(/TRDIOD1) (io), 21 P2_6(/TRDIOC1) (io), 22 P2_5(/TRDIOB1) (io), 23 P2_4(/TRDIOA1) (io), 24 P2_3(/TRDIOD0) (io), 25 P2_2(/TRCIOD/TRDIOB0) (io), 26 P2_1(/TRCIOC/TRDIOC0) (io), 27 P2_0(/~{INT}1/TRCIOB/TRDIOA0/TRDCLK) (io), 28 P3_6/(~{INT1}) (io), 29 P3_1/(TRBO) (io), 30 P8_6 (io), 31 P8_5(/TRFO12) (io), 32 P8_4(/TRFO11) (io), 33 P8_3(/TRFI/TRFO10) (io), 34 P8_2(/TRFO02) (io), 35 P8_1(/TRFO01) (io), 36 P8_0(/TRFO00) (io), 37 P6_7(/~{INT}3/TRCIOD) (io), 38 P6_6/~{INT}2(/TXD2/SDA2/TRCIOC) (io), 39 P6_5/~{INT}4(/CLK1/CLK2/TRCIOB) (io), 40 P4_5/~{ADTRG}/~{INT}0(/RXD2/SCL2) (io), 41 P1_7/IVCMP1/~{INT}1(/TRAIO) (io), 42 P1_6/IVREF1(/CLK0) (io), 43 P1_5(/~{INT}1/RXD0/TRAIO) (io), 44 P1_4(/TXD0/TRCCLK) (io), 45 P1_3/AN11/~{KI}3/TRBO(/TRCIOC) (io), 46 P1_2/AN10/~{KI}2(/TRCIOB) (io), 47 P1_1/AN9/~{KI}1(/TRCIOA/TRCTRG) (io), 48 P1_0/AN8/~{KI}0(/TRCIOD) (io), 49 P0_7/AN0/DA1(/TRCIOC) (io), 50 P0_6/AN1/DA0(/TRCIOD) (io), 51 P0_5/AN2(/TRCIOB) (io), 52 P0_4/AN3/TREO(/TRCIOB) (io), 53 P0_3/AN4(/CLK1/TRCIOB) (io), 54 P0_2/AN5(/RXD1/TRCIOA/TRCTRG) (io), 55 P0_1/AN6(/TXD1/TRCIOA/TRCTRG) (io), 56 P0_0/AN7(/TRCIOA/TRCTRG) (io), 57 P6_4(/RXD1) (io), 58 P6_3(/TXD1) (io), 59 P6_2(/CLK1) (io), 60 P6_1 (io), 61 P6_0(/TREO) (io), 62 P5_7(/TRGIOB) (io), 63 P5_6(/TRAO/TRGIOA) (io), 64 P3_2(/~{INT}1/~{INT}2/TRAIO/TRGCLKB) (io)

## R5F21366CDFP
designator U?
R8C/36C Group Single Chip 16-Bit CMOS MCU, 32K + 4K ROM, 2.5K RAM, D Version; Published: 17-Feb-2010; DatasheetVersion: Rev.0.10, Nov-2009; PackageVersion: Sep-2005; PackageReference: PLQP0064KB-A; Publisher: Altium Limited; PackageDescription: 64-Pin Plastic Low Profile QFP, 10 x 10 x 1.4 mm Body, 0.5 mm Pitch; Code_JEITA: P-LQFP64-10x10-0.50; Code_IPC: SQFP50P1200X1200-64; ComponentLink1Description: Manufacturer Link; ComponentLink1URL: http://sg.renesas.com/fmwk.jsp?cnt=r8c_family_landing.jsp&fp=/products/mpumcu/r8c_family/; ComponentLink2Description: Datasheet; ComponentLink2URL: http://documentation.renesas.com/eng/products/mpumcu/rej09b0574_r8c36chm.pdf; ComponentLink3Description: Packaging Specification; ComponentLink3URL: http://sg.renesas.com/media/products/common_info/package/pdf/ic/code/plqp0064kb_a.pdf
footprint PLQP0064KB-A_N (Shrink QFP, 64-Leads, Body 10x10mm, Pitch 0.5mm, IPC Medium Density)
footprint PLQP0064KB-A_L (Shrink QFP, 64-Leads, Body 10x10mm, Pitch 0.5mm, IPC High Density)
footprint PLQP0064KB-A_M (Shrink QFP, 64-Leads, Body 10x10mm, Pitch 0.5mm, IPC Low Density)
pins: 1 P3_0/(TRAO0)/TRGCLKA (io), 2 P4_2/VREF (in), 3 MODE (in), 4 P4_3(/XCIN) (in), 5 P4_4(/XCOUT), 6 ~{RESET} (in), 7 P4_7/XOUT, 8 VSS/AVSS (power), 9 P4_6/XIN (in), 10 VCC/AVCC (power), 11 P5_4(/TRCIOD) (io), 12 P5_3(/TRCIOC) (io), 13 P5_2(/TRCIOB) (io), 14 P5_1(/TRCIOA/TRCTRG) (io), 15 P5_0(/TRCCLK) (io), 16 P3_7/SDA/SSO/TRAO(/RXD2/SCL2/TXD2/SDA2) (io), 17 P3_5/SCL/SSCK(/CLK2/TRCIOD) (io), 18 P3_4/IVREF3/SSI(/RXD2/SCL2/TXD2/SDA2/TRCIOC) (io), 19 P3_3/IVCMP3/~{INT}3/~{SCS}(/~{CTS}2/~{RTS}2/TRCCLK) (io), 20 P2_7(/TRDIOD1) (io), 21 P2_6(/TRDIOC1) (io), 22 P2_5(/TRDIOB1) (io), 23 P2_4(/TRDIOA1) (io), 24 P2_3(/TRDIOD0) (io), 25 P2_2(/TRCIOD/TRDIOB0) (io), 26 P2_1(/TRCIOC/TRDIOC0) (io), 27 P2_0(/~{INT}1/TRCIOB/TRDIOA0/TRDCLK) (io), 28 P3_6/(~{INT1}) (io), 29 P3_1/(TRBO) (io), 30 P8_6 (io), 31 P8_5(/TRFO12) (io), 32 P8_4(/TRFO11) (io), 33 P8_3(/TRFI/TRFO10) (io), 34 P8_2(/TRFO02) (io), 35 P8_1(/TRFO01) (io), 36 P8_0(/TRFO00) (io), 37 P6_7(/~{INT}3/TRCIOD) (io), 38 P6_6/~{INT}2(/TXD2/SDA2/TRCIOC) (io), 39 P6_5/~{INT}4(/CLK1/CLK2/TRCIOB) (io), 40 P4_5/~{ADTRG}/~{INT}0(/RXD2/SCL2) (io), 41 P1_7/IVCMP1/~{INT}1(/TRAIO) (io), 42 P1_6/IVREF1(/CLK0) (io), 43 P1_5(/~{INT}1/RXD0/TRAIO) (io), 44 P1_4(/TXD0/TRCCLK) (io), 45 P1_3/AN11/~{KI}3/TRBO(/TRCIOC) (io), 46 P1_2/AN10/~{KI}2(/TRCIOB) (io), 47 P1_1/AN9/~{KI}1(/TRCIOA/TRCTRG) (io), 48 P1_0/AN8/~{KI}0(/TRCIOD) (io), 49 P0_7/AN0/DA1(/TRCIOC) (io), 50 P0_6/AN1/DA0(/TRCIOD) (io), 51 P0_5/AN2(/TRCIOB) (io), 52 P0_4/AN3/TREO(/TRCIOB) (io), 53 P0_3/AN4(/CLK1/TRCIOB) (io), 54 P0_2/AN5(/RXD1/TRCIOA/TRCTRG) (io), 55 P0_1/AN6(/TXD1/TRCIOA/TRCTRG) (io), 56 P0_0/AN7(/TRCIOA/TRCTRG) (io), 57 P6_4(/RXD1) (io), 58 P6_3(/TXD1) (io), 59 P6_2(/CLK1) (io), 60 P6_1 (io), 61 P6_0(/TREO) (io), 62 P5_7(/TRGIOB) (io), 63 P5_6(/TRAO/TRGIOA) (io), 64 P3_2(/~{INT}1/~{INT}2/TRAIO/TRGCLKB) (io)

## R5F21366CNFA
designator U?
R8C/36C Group Single Chip 16-Bit CMOS MCU, 32K + 4K ROM, 2.5K RAM, N Version; Published: 17-Feb-2010; DatasheetVersion: Rev.0.10, Nov-2009; PackageVersion: Oct-2005; PackageReference: PLQP0064GA-A; Publisher: Altium Limited; PackageDescription: 64-Pin Plastic Low Profile QFP, 14 x 14 x 1.4 mm Body, 0.8 mm Pitch; Code_JEITA: P-LQFP64-14x14-0.80; ComponentLink1Description: Manufacturer Link; ComponentLink1URL: http://sg.renesas.com/fmwk.jsp?cnt=r8c_family_landing.jsp&fp=/products/mpumcu/r8c_family/; ComponentLink2Description: Datasheet; ComponentLink2URL: http://documentation.renesas.com/eng/products/mpumcu/rej09b0574_r8c36chm.pdf; ComponentLink3Description: Packaging Specification; ComponentLink3URL: http://sg.renesas.com/media/products/common_info/package/pdf/ic/code/plqp0064ga_a.pdf
footprint PLQP0064GA-A_N (QFP, 64-Leads, Body 14x14mm, Pitch 0.8mm, IPC Medium Density)
footprint PLQP0064GA-A_L (QFP, 64-Leads, Body 14x14mm, Pitch 0.8mm, IPC High Density)
footprint PLQP0064GA-A_M (QFP, 64-Leads, Body 14x14mm, Pitch 0.8mm, IPC Low Density)
pins: 1 P3_0/(TRAO0)/TRGCLKA (io), 2 P4_2/VREF (in), 3 MODE (in), 4 P4_3(/XCIN) (in), 5 P4_4(/XCOUT), 6 ~{RESET} (in), 7 P4_7/XOUT, 8 VSS/AVSS (power), 9 P4_6/XIN (in), 10 VCC/AVCC (power), 11 P5_4(/TRCIOD) (io), 12 P5_3(/TRCIOC) (io), 13 P5_2(/TRCIOB) (io), 14 P5_1(/TRCIOA/TRCTRG) (io), 15 P5_0(/TRCCLK) (io), 16 P3_7/SDA/SSO/TRAO(/RXD2/SCL2/TXD2/SDA2) (io), 17 P3_5/SCL/SSCK(/CLK2/TRCIOD) (io), 18 P3_4/IVREF3/SSI(/RXD2/SCL2/TXD2/SDA2/TRCIOC) (io), 19 P3_3/IVCMP3/~{INT}3/~{SCS}(/~{CTS}2/~{RTS}2/TRCCLK) (io), 20 P2_7(/TRDIOD1) (io), 21 P2_6(/TRDIOC1) (io), 22 P2_5(/TRDIOB1) (io), 23 P2_4(/TRDIOA1) (io), 24 P2_3(/TRDIOD0) (io), 25 P2_2(/TRCIOD/TRDIOB0) (io), 26 P2_1(/TRCIOC/TRDIOC0) (io), 27 P2_0(/~{INT}1/TRCIOB/TRDIOA0/TRDCLK) (io), 28 P3_6/(~{INT1}) (io), 29 P3_1/(TRBO) (io), 30 P8_6 (io), 31 P8_5(/TRFO12) (io), 32 P8_4(/TRFO11) (io), 33 P8_3(/TRFI/TRFO10) (io), 34 P8_2(/TRFO02) (io), 35 P8_1(/TRFO01) (io), 36 P8_0(/TRFO00) (io), 37 P6_7(/~{INT}3/TRCIOD) (io), 38 P6_6/~{INT}2(/TXD2/SDA2/TRCIOC) (io), 39 P6_5/~{INT}4(/CLK1/CLK2/TRCIOB) (io), 40 P4_5/~{ADTRG}/~{INT}0(/RXD2/SCL2) (io), 41 P1_7/IVCMP1/~{INT}1(/TRAIO) (io), 42 P1_6/IVREF1(/CLK0) (io), 43 P1_5(/~{INT}1/RXD0/TRAIO) (io), 44 P1_4(/TXD0/TRCCLK) (io), 45 P1_3/AN11/~{KI}3/TRBO(/TRCIOC) (io), 46 P1_2/AN10/~{KI}2(/TRCIOB) (io), 47 P1_1/AN9/~{KI}1(/TRCIOA/TRCTRG) (io), 48 P1_0/AN8/~{KI}0(/TRCIOD) (io), 49 P0_7/AN0/DA1(/TRCIOC) (io), 50 P0_6/AN1/DA0(/TRCIOD) (io), 51 P0_5/AN2(/TRCIOB) (io), 52 P0_4/AN3/TREO(/TRCIOB) (io), 53 P0_3/AN4(/CLK1/TRCIOB) (io), 54 P0_2/AN5(/RXD1/TRCIOA/TRCTRG) (io), 55 P0_1/AN6(/TXD1/TRCIOA/TRCTRG) (io), 56 P0_0/AN7(/TRCIOA/TRCTRG) (io), 57 P6_4(/RXD1) (io), 58 P6_3(/TXD1) (io), 59 P6_2(/CLK1) (io), 60 P6_1 (io), 61 P6_0(/TREO) (io), 62 P5_7(/TRGIOB) (io), 63 P5_6(/TRAO/TRGIOA) (io), 64 P3_2(/~{INT}1/~{INT}2/TRAIO/TRGCLKB) (io)

## R5F21366CNFP
designator U?
R8C/36C Group Single Chip 16-Bit CMOS MCU, 32K + 4K ROM, 2.5K RAM, N Version; Published: 17-Feb-2010; DatasheetVersion: Rev.0.10, Nov-2009; PackageVersion: Sep-2005; PackageReference: PLQP0064KB-A; Publisher: Altium Limited; PackageDescription: 64-Pin Plastic Low Profile QFP, 10 x 10 x 1.4 mm Body, 0.5 mm Pitch; Code_JEITA: P-LQFP64-10x10-0.50; Code_IPC: SQFP50P1200X1200-64; ComponentLink1Description: Manufacturer Link; ComponentLink1URL: http://sg.renesas.com/fmwk.jsp?cnt=r8c_family_landing.jsp&fp=/products/mpumcu/r8c_family/; ComponentLink2Description: Datasheet; ComponentLink2URL: http://documentation.renesas.com/eng/products/mpumcu/rej09b0574_r8c36chm.pdf; ComponentLink3Description: Packaging Specification; ComponentLink3URL: http://sg.renesas.com/media/products/common_info/package/pdf/ic/code/plqp0064kb_a.pdf
footprint PLQP0064KB-A_N (Shrink QFP, 64-Leads, Body 10x10mm, Pitch 0.5mm, IPC Medium Density)
footprint PLQP0064KB-A_L (Shrink QFP, 64-Leads, Body 10x10mm, Pitch 0.5mm, IPC High Density)
footprint PLQP0064KB-A_M (Shrink QFP, 64-Leads, Body 10x10mm, Pitch 0.5mm, IPC Low Density)
pins: 1 P3_0/(TRAO0)/TRGCLKA (io), 2 P4_2/VREF (in), 3 MODE (in), 4 P4_3(/XCIN) (in), 5 P4_4(/XCOUT), 6 ~{RESET} (in), 7 P4_7/XOUT, 8 VSS/AVSS (power), 9 P4_6/XIN (in), 10 VCC/AVCC (power), 11 P5_4(/TRCIOD) (io), 12 P5_3(/TRCIOC) (io), 13 P5_2(/TRCIOB) (io), 14 P5_1(/TRCIOA/TRCTRG) (io), 15 P5_0(/TRCCLK) (io), 16 P3_7/SDA/SSO/TRAO(/RXD2/SCL2/TXD2/SDA2) (io), 17 P3_5/SCL/SSCK(/CLK2/TRCIOD) (io), 18 P3_4/IVREF3/SSI(/RXD2/SCL2/TXD2/SDA2/TRCIOC) (io), 19 P3_3/IVCMP3/~{INT}3/~{SCS}(/~{CTS}2/~{RTS}2/TRCCLK) (io), 20 P2_7(/TRDIOD1) (io), 21 P2_6(/TRDIOC1) (io), 22 P2_5(/TRDIOB1) (io), 23 P2_4(/TRDIOA1) (io), 24 P2_3(/TRDIOD0) (io), 25 P2_2(/TRCIOD/TRDIOB0) (io), 26 P2_1(/TRCIOC/TRDIOC0) (io), 27 P2_0(/~{INT}1/TRCIOB/TRDIOA0/TRDCLK) (io), 28 P3_6/(~{INT1}) (io), 29 P3_1/(TRBO) (io), 30 P8_6 (io), 31 P8_5(/TRFO12) (io), 32 P8_4(/TRFO11) (io), 33 P8_3(/TRFI/TRFO10) (io), 34 P8_2(/TRFO02) (io), 35 P8_1(/TRFO01) (io), 36 P8_0(/TRFO00) (io), 37 P6_7(/~{INT}3/TRCIOD) (io), 38 P6_6/~{INT}2(/TXD2/SDA2/TRCIOC) (io), 39 P6_5/~{INT}4(/CLK1/CLK2/TRCIOB) (io), 40 P4_5/~{ADTRG}/~{INT}0(/RXD2/SCL2) (io), 41 P1_7/IVCMP1/~{INT}1(/TRAIO) (io), 42 P1_6/IVREF1(/CLK0) (io), 43 P1_5(/~{INT}1/RXD0/TRAIO) (io), 44 P1_4(/TXD0/TRCCLK) (io), 45 P1_3/AN11/~{KI}3/TRBO(/TRCIOC) (io), 46 P1_2/AN10/~{KI}2(/TRCIOB) (io), 47 P1_1/AN9/~{KI}1(/TRCIOA/TRCTRG) (io), 48 P1_0/AN8/~{KI}0(/TRCIOD) (io), 49 P0_7/AN0/DA1(/TRCIOC) (io), 50 P0_6/AN1/DA0(/TRCIOD) (io), 51 P0_5/AN2(/TRCIOB) (io), 52 P0_4/AN3/TREO(/TRCIOB) (io), 53 P0_3/AN4(/CLK1/TRCIOB) (io), 54 P0_2/AN5(/RXD1/TRCIOA/TRCTRG) (io), 55 P0_1/AN6(/TXD1/TRCIOA/TRCTRG) (io), 56 P0_0/AN7(/TRCIOA/TRCTRG) (io), 57 P6_4(/RXD1) (io), 58 P6_3(/TXD1) (io), 59 P6_2(/CLK1) (io), 60 P6_1 (io), 61 P6_0(/TREO) (io), 62 P5_7(/TRGIOB) (io), 63 P5_6(/TRAO/TRGIOA) (io), 64 P3_2(/~{INT}1/~{INT}2/TRAIO/TRGCLKB) (io)

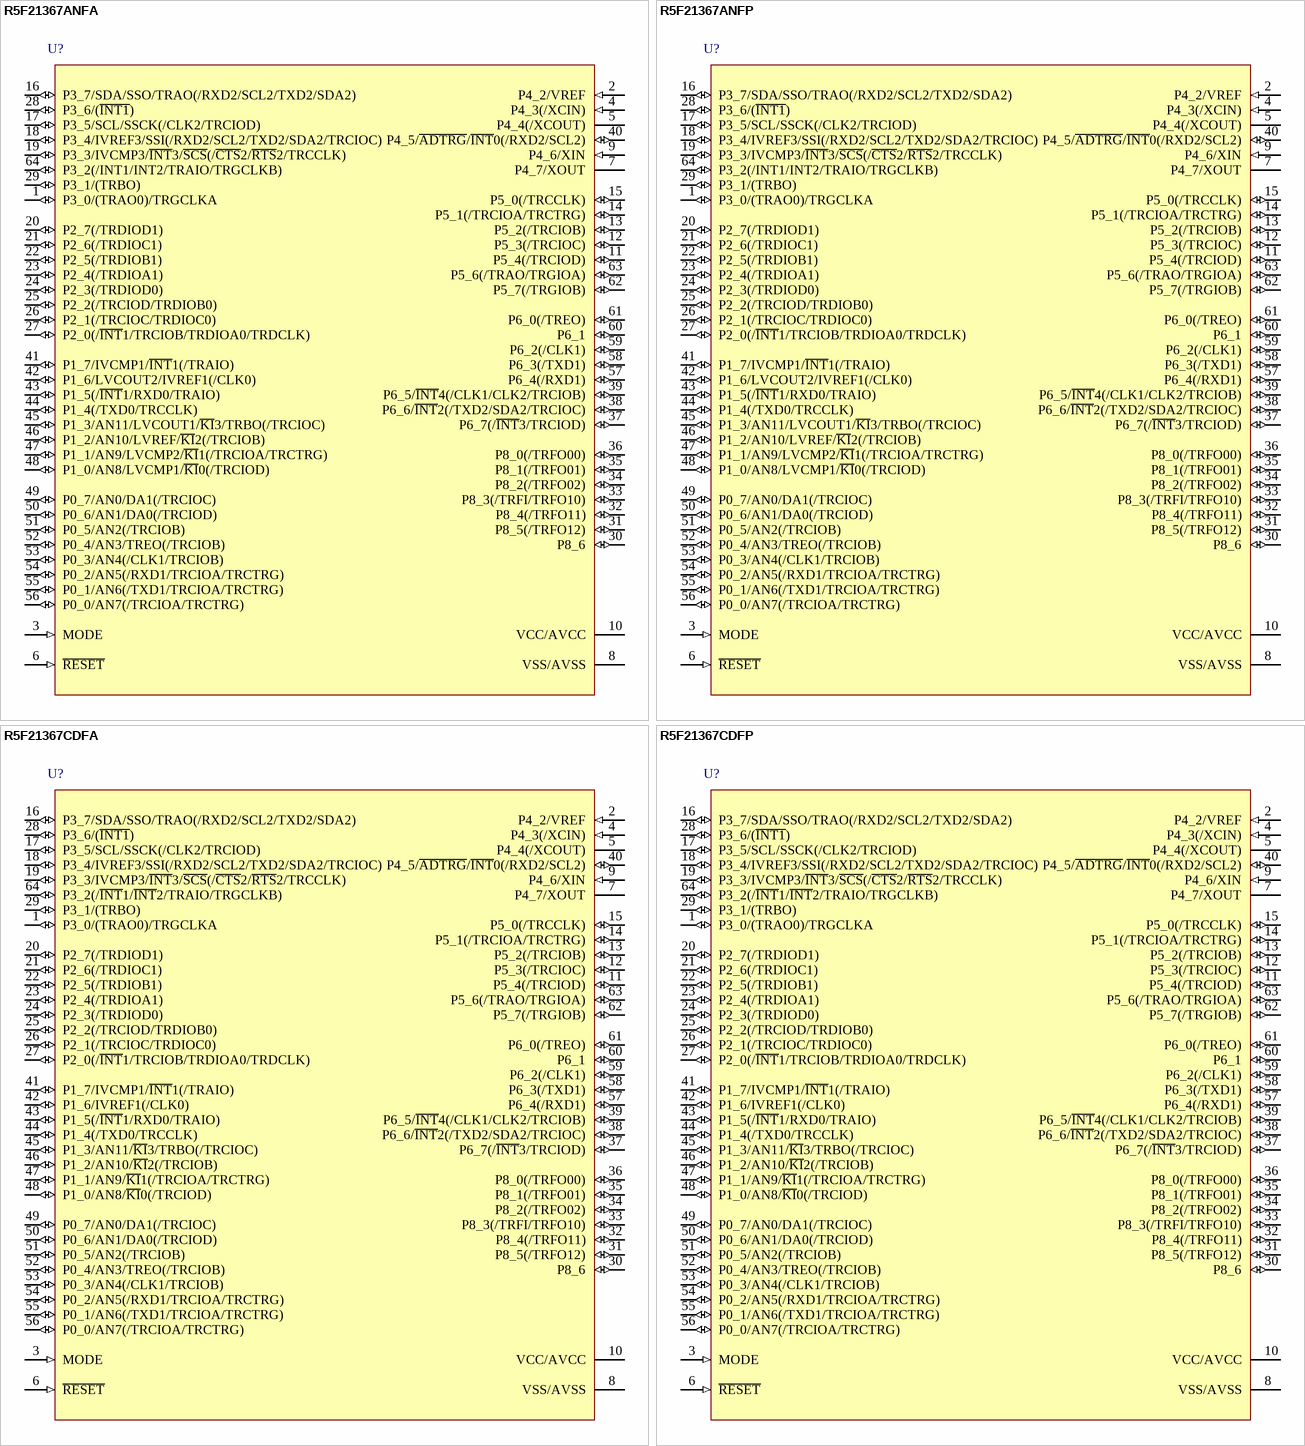
[diagram p107: symbols R5F21367ANFA to R5F21367CDFP]

## R5F21367ANFA
designator U?
R8C/36A Group Single Chip 16-Bit CMOS MCU, 48K + 4K ROM, 4K RAM, N Version; Published: 17-Feb-2010; DatasheetVersion: Rev.1.10, Sep-2009; PackageVersion: Oct-2005; PackageReference: PLQP0064GA-A; Publisher: Altium Limited; PackageDescription: 64-Pin Plastic Low Profile QFP, 14 x 14 x 1.4 mm Body, 0.8 mm Pitch; Code_JEITA: P-LQFP64-14x14-0.80; ComponentLink1Description: Manufacturer Link; ComponentLink1URL: http://sg.renesas.com/fmwk.jsp?cnt=r8c_family_landing.jsp&fp=/products/mpumcu/r8c_family/; ComponentLink2Description: Datasheet; ComponentLink2URL: http://documentation.renesas.com/eng/products/mpumcu/rej03b0265_r8c36ads.pdf; ComponentLink3Description: Packaging Specification; ComponentLink3URL: http://sg.renesas.com/media/products/common_info/package/pdf/ic/code/plqp0064ga_a.pdf
footprint PLQP0064GA-A_N (QFP, 64-Leads, Body 14x14mm, Pitch 0.8mm, IPC Medium Density)
footprint PLQP0064GA-A_L (QFP, 64-Leads, Body 14x14mm, Pitch 0.8mm, IPC High Density)
footprint PLQP0064GA-A_M (QFP, 64-Leads, Body 14x14mm, Pitch 0.8mm, IPC Low Density)
pins: 1 P3_0/(TRAO0)/TRGCLKA (io), 2 P4_2/VREF (in), 3 MODE (in), 4 P4_3(/XCIN) (in), 5 P4_4(/XCOUT), 6 ~{RESET} (in), 7 P4_7/XOUT, 8 VSS/AVSS (power), 9 P4_6/XIN (in), 10 VCC/AVCC (power), 11 P5_4(/TRCIOD) (io), 12 P5_3(/TRCIOC) (io), 13 P5_2(/TRCIOB) (io), 14 P5_1(/TRCIOA/TRCTRG) (io), 15 P5_0(/TRCCLK) (io), 16 P3_7/SDA/SSO/TRAO(/RXD2/SCL2/TXD2/SDA2) (io), 17 P3_5/SCL/SSCK(/CLK2/TRCIOD) (io), 18 P3_4/IVREF3/SSI(/RXD2/SCL2/TXD2/SDA2/TRCIOC) (io), 19 P3_3/IVCMP3/~{INT}3/~{SCS}(/~{CTS}2/~{RTS}2/TRCCLK) (io), 20 P2_7(/TRDIOD1) (io), 21 P2_6(/TRDIOC1) (io), 22 P2_5(/TRDIOB1) (io), 23 P2_4(/TRDIOA1) (io), 24 P2_3(/TRDIOD0) (io), 25 P2_2(/TRCIOD/TRDIOB0) (io), 26 P2_1(/TRCIOC/TRDIOC0) (io), 27 P2_0(/~{INT}1/TRCIOB/TRDIOA0/TRDCLK) (io), 28 P3_6/(~{INT1}) (io), 29 P3_1/(TRBO) (io), 30 P8_6 (io), 31 P8_5(/TRFO12) (io), 32 P8_4(/TRFO11) (io), 33 P8_3(/TRFI/TRFO10) (io), 34 P8_2(/TRFO02) (io), 35 P8_1(/TRFO01) (io), 36 P8_0(/TRFO00) (io), 37 P6_7(/~{INT}3/TRCIOD) (io), 38 P6_6/~{INT}2(/TXD2/SDA2/TRCIOC) (io), 39 P6_5/~{INT}4(/CLK1/CLK2/TRCIOB) (io), 40 P4_5/~{ADTRG}/~{INT}0(/RXD2/SCL2) (io), 41 P1_7/IVCMP1/~{INT}1(/TRAIO) (io), 42 P1_6/LVCOUT2/IVREF1(/CLK0) (io), 43 P1_5(/~{INT}1/RXD0/TRAIO) (io), 44 P1_4(/TXD0/TRCCLK) (io), 45 P1_3/AN11/LVCOUT1/~{KI}3/TRBO(/TRCIOC) (io), 46 P1_2/AN10/LVREF/~{KI}2(/TRCIOB) (io), 47 P1_1/AN9/LVCMP2/~{KI}1(/TRCIOA/TRCTRG) (io), 48 P1_0/AN8/LVCMP1/~{KI}0(/TRCIOD) (io), 49 P0_7/AN0/DA1(/TRCIOC) (io), 50 P0_6/AN1/DA0(/TRCIOD) (io), 51 P0_5/AN2(/TRCIOB) (io), 52 P0_4/AN3/TREO(/TRCIOB) (io), 53 P0_3/AN4(/CLK1/TRCIOB) (io), 54 P0_2/AN5(/RXD1/TRCIOA/TRCTRG) (io), 55 P0_1/AN6(/TXD1/TRCIOA/TRCTRG) (io), 56 P0_0/AN7(/TRCIOA/TRCTRG) (io), 57 P6_4(/RXD1) (io), 58 P6_3(/TXD1) (io), 59 P6_2(/CLK1) (io), 60 P6_1 (io), 61 P6_0(/TREO) (io), 62 P5_7(/TRGIOB) (io), 63 P5_6(/TRAO/TRGIOA) (io), 64 P3_2(/INT1/INT2/TRAIO/TRGCLKB) (io)